# Altium integrated library Motorola Microcontroller 32-Bit.IntLib: 337 symbols (part 18 of 29)
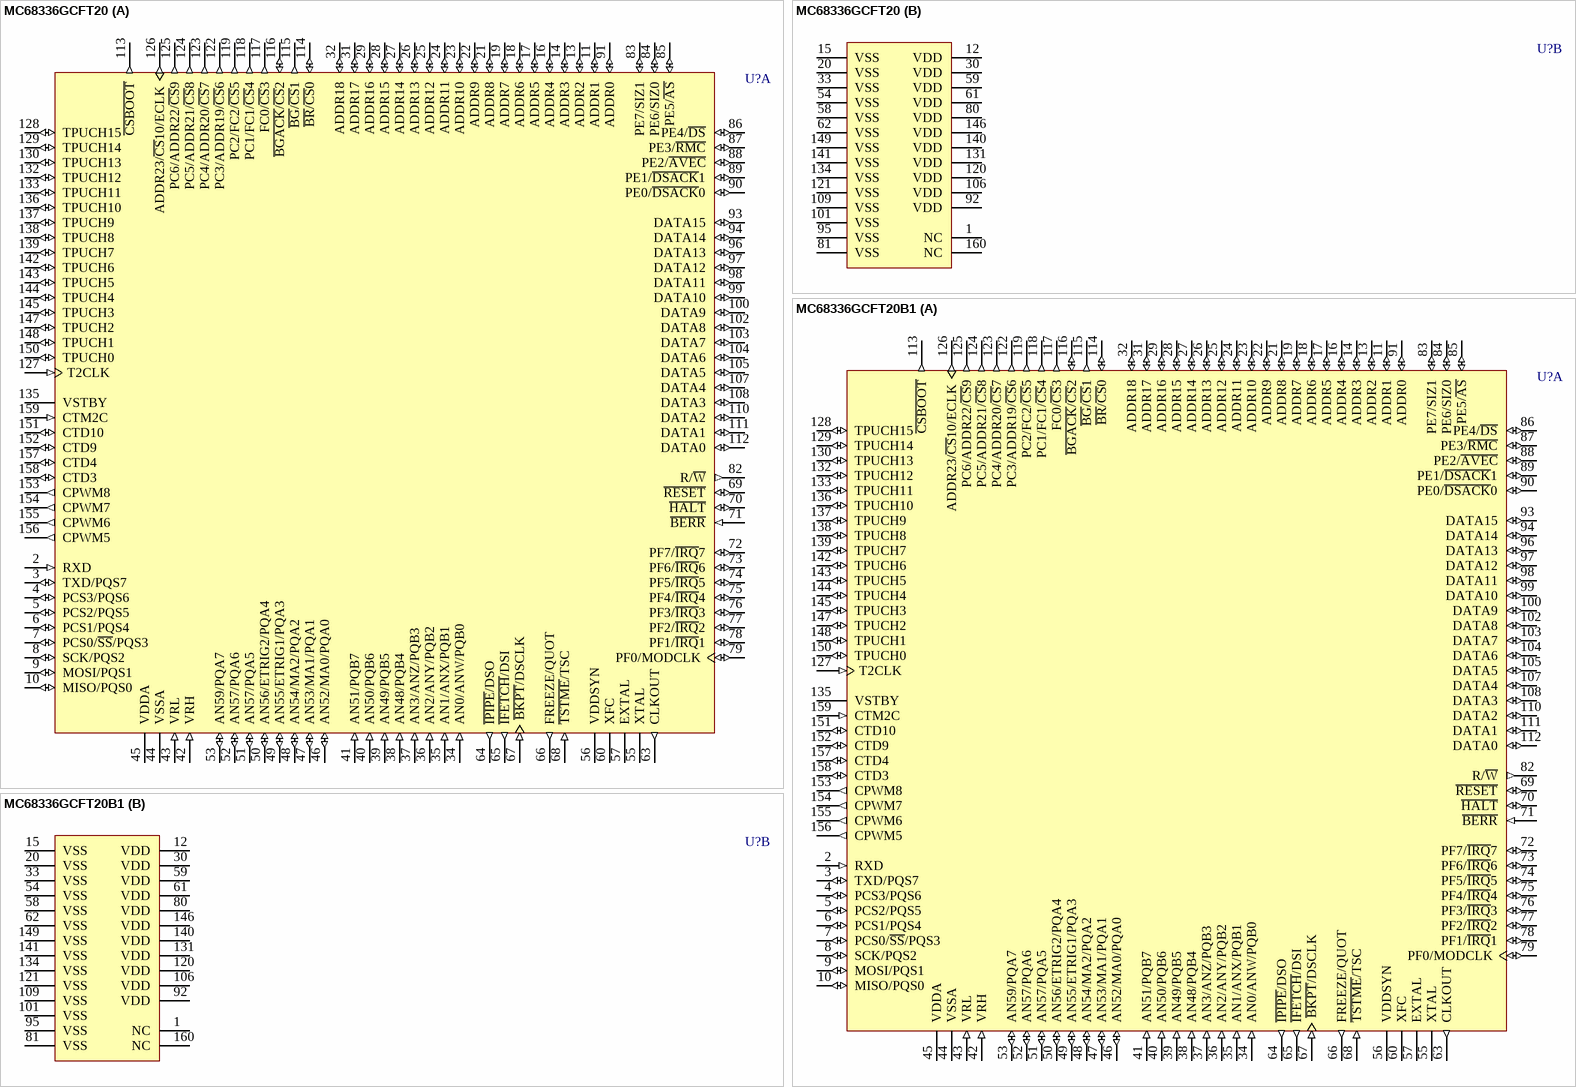
[diagram p257: symbols MC68336GCFT20 to MC68336GCFT20B1]

## MC68336GCFT20
designator U?
32-Bit Microcontroller; Published: 21-Mar-2003; LatestRevisionDate: 13-Apr-2006; LatestRevisionNote: IPC-7351 Footprint Added.; DatasheetVersion: 15-Oct-2000; PackageVersion: 1996; PackageReference: 864A-03; Publisher: Altium Limited; PackageDescription: 160-Pin Plastic Quad Flat Pack 0.65 mm Pitch; Code_IPC: QFP65P3120X3120-160; ComponentLink1Description: Manufacturer Link; ComponentLink1URL: http://www.freescale.com/; ComponentLink2Description: Datasheet; ComponentLink2URL: http://www.freescale.com/files/microcontrollers/doc/data_sheet/MC683336_376UM_ZIP.zip
footprint 864A-03_N (QFP, 160-Leads, Body 28 x 28mm, Pitch 0.65mm, IPC Medium Density)
footprint 864A-03_L (QFP, 160-Leads, Body 28 x 28mm, Pitch 0.65mm, IPC High Density)
footprint 864A-03_M (QFP, 160-Leads, Body 28 x 28mm, Pitch 0.65mm, IPC Low Density)
3D model MC68336-864A-03 (160-Pin Plastic Quad Flat Pack 0.65 mm Pitch)
part A pins: 2 RXD (in), 3 TXD/PQS7 (io), 4 PCS3/PQS6 (io), 5 PCS2/PQS5 (io), 6 PCS1/PQS4 (io), 7 PCS0/~{SS}/PQS3 (io), 8 SCK/PQS2 (io), 9 MOSI/PQS1 (io), 10 MISO/PQS0 (io), 11 ADDR1 (io), 13 ADDR2 (io), 14 ADDR3 (io), 16 ADDR4 (io), 17 ADDR5 (io), 18 ADDR6 (io), 19 ADDR7 (io), 21 ADDR8 (io), 22 ADDR9 (io), 23 ADDR10 (io), 24 ADDR11 (io), 25 ADDR12 (io), 26 ADDR13 (io), 27 ADDR14 (io), 28 ADDR15 (io), 29 ADDR16 (io), 31 ADDR17 (io), 32 ADDR18 (io), 34 AN0/ANW/PQB0 (in), 35 AN1/ANX/PQB1 (in), 36 AN2/ANY/PQB2 (in), 37 AN3/ANZ/PQB3 (in), 38 AN48/PQB4 (in), 39 AN49/PQB5 (in), 40 AN50/PQB6 (in), 41 AN51/PQB7 (in), 42 VRH (in), 43 VRL (in), 44 VSSA (power), 45 VDDA (power), 46 AN52/MA0/PQA0 (io), 47 AN53/MA1/PQA1 (io), 48 AN54/MA2/PQA2 (io), 49 AN55/ETRIG1/PQA3 (io), 50 AN56/ETRIG2/PQA4 (io), 51 AN57/PQA5 (io), 52 AN57/PQA6 (io), 53 AN59/PQA7 (io), 55 XTAL, 56 VDDSYN (power), 57 EXTAL, 60 XFC, 63 CLKOUT (out), 64 ~{IPIPE}/DSO (out), 65 ~{IFETCH}/DSI (out), 66 FREEZE/QUOT (out), 67 ~{BKPT}/DSCLK (in), 68 ~{TSTME}/TSC (in), 69 ~{RESET} (io), 70 ~{HALT} (io), 71 ~{BERR} (in), 72 PF7/~{IRQ}7 (io), 73 PF6/~{IRQ}6 (io), 74 PF5/~{IRQ}5 (io), 75 PF4/~{IRQ}4 (io), 76 PF3/~{IRQ}3 (io), 77 PF2/~{IRQ}2 (io), 78 PF1/~{IRQ}1 (io), 79 PF0/MODCLK (io), 82 R/~{W} (out), 83 PE7/SIZ1 (io), 84 PE6/SIZ0 (io), 85 PE5/~{AS} (io), 86 PE4/~{DS} (io), 87 PE3/~{RMC} (io), 88 PE2/~{AVEC} (io), 89 PE1/~{DSACK}1 (io), 90 PE0/~{DSACK}0 (io), 91 ADDR0 (io), 93 DATA15 (io), 94 DATA14 (io), 96 DATA13 (io), 97 DATA12 (io), 98 DATA11 (io), 99 DATA10 (io), 100 DATA9 (io), 102 DATA8 (io), 103 DATA7 (io), 104 DATA6 (io), 105 DATA5 (io), 107 DATA4 (io), 108 DATA3 (io), 110 DATA2 (io), 111 DATA1 (io), 112 DATA0 (io), 113 ~{CSBOOT} (out), 114 ~{BR}/~{CS}0 (io), 115 ~{BG}/~{CS}1 (out), 116 ~{BGACK}/~{CS}2 (io), 117 FC0/~{CS}3 (out), 118 PC1/FC1/~{CS}4 (out), 119 PC2/FC2/~{CS}5 (out), 122 PC3/ADDR19/~{CS}6 (out), 123 PC4/ADDR20/~{CS}7 (out), 124 PC5/ADDR21/~{CS}8 (out), 125 PC6/ADDR22/~{CS}9 (out), 126 ADDR23/~{CS}10/ECLK (out), 127 T2CLK (in), 128 TPUCH15 (io), 129 TPUCH14 (io), 130 TPUCH13 (io), 132 TPUCH12 (io), 133 TPUCH11 (io), 135 VSTBY (power), 136 TPUCH10 (io), 137 TPUCH9 (io), 138 TPUCH8 (io), 139 TPUCH7 (io), 142 TPUCH6 (io), 143 TPUCH5 (io), 144 TPUCH4 (io), 145 TPUCH3 (io), 147 TPUCH2 (io), 148 TPUCH1 (io), 150 TPUCH0 (io), 151 CTD10 (io), 152 CTD9 (io), 153 CPWM8 (out), 154 CPWM7 (out), 155 CPWM6 (out), 156 CPWM5 (out), 157 CTD4 (io), 158 CTD3 (io), 159 CTM2C (in)
part B pins: 1 NC, 12 VDD (power), 15 VSS (power), 20 VSS (power), 30 VDD (power), 33 VSS (power), 54 VSS (power), 58 VSS (power), 59 VDD (power), 61 VDD (power), 62 VSS (power), 80 VDD (power), 81 VSS (power), 92 VDD (power), 95 VSS (power), 101 VSS (power), 106 VDD (power), 109 VSS (power), 120 VDD (power), 121 VSS (power), 131 VDD (power), 134 VSS (power), 140 VDD (power), 141 VSS (power), 146 VDD (power), 149 VSS (power), 160 NC

## MC68336GCFT20B1
designator U?
32-Bit Microcontroller; Published: 21-Mar-2003; LatestRevisionDate: 13-Apr-2006; LatestRevisionNote: IPC-7351 Footprint Added.; DatasheetVersion: 15-Oct-2000; PackageVersion: 1996; PackageReference: 864A-03; Publisher: Altium Limited; PackageDescription: 160-Pin Plastic Quad Flat Pack 0.65 mm Pitch; Code_IPC: QFP65P3120X3120-160; ComponentLink1Description: Manufacturer Link; ComponentLink1URL: http://www.freescale.com/; ComponentLink2Description: Datasheet; ComponentLink2URL: http://www.freescale.com/files/microcontrollers/doc/data_sheet/MC683336_376UM_ZIP.zip
footprint 864A-03_N (QFP, 160-Leads, Body 28 x 28mm, Pitch 0.65mm, IPC Medium Density)
footprint 864A-03_L (QFP, 160-Leads, Body 28 x 28mm, Pitch 0.65mm, IPC High Density)
footprint 864A-03_M (QFP, 160-Leads, Body 28 x 28mm, Pitch 0.65mm, IPC Low Density)
3D model MC68336-864A-03 (160-Pin Plastic Quad Flat Pack 0.65 mm Pitch)
part A pins: 2 RXD (in), 3 TXD/PQS7 (io), 4 PCS3/PQS6 (io), 5 PCS2/PQS5 (io), 6 PCS1/PQS4 (io), 7 PCS0/~{SS}/PQS3 (io), 8 SCK/PQS2 (io), 9 MOSI/PQS1 (io), 10 MISO/PQS0 (io), 11 ADDR1 (io), 13 ADDR2 (io), 14 ADDR3 (io), 16 ADDR4 (io), 17 ADDR5 (io), 18 ADDR6 (io), 19 ADDR7 (io), 21 ADDR8 (io), 22 ADDR9 (io), 23 ADDR10 (io), 24 ADDR11 (io), 25 ADDR12 (io), 26 ADDR13 (io), 27 ADDR14 (io), 28 ADDR15 (io), 29 ADDR16 (io), 31 ADDR17 (io), 32 ADDR18 (io), 34 AN0/ANW/PQB0 (in), 35 AN1/ANX/PQB1 (in), 36 AN2/ANY/PQB2 (in), 37 AN3/ANZ/PQB3 (in), 38 AN48/PQB4 (in), 39 AN49/PQB5 (in), 40 AN50/PQB6 (in), 41 AN51/PQB7 (in), 42 VRH (in), 43 VRL (in), 44 VSSA (power), 45 VDDA (power), 46 AN52/MA0/PQA0 (io), 47 AN53/MA1/PQA1 (io), 48 AN54/MA2/PQA2 (io), 49 AN55/ETRIG1/PQA3 (io), 50 AN56/ETRIG2/PQA4 (io), 51 AN57/PQA5 (io), 52 AN57/PQA6 (io), 53 AN59/PQA7 (io), 55 XTAL, 56 VDDSYN (power), 57 EXTAL, 60 XFC, 63 CLKOUT (out), 64 ~{IPIPE}/DSO (out), 65 ~{IFETCH}/DSI (out), 66 FREEZE/QUOT (out), 67 ~{BKPT}/DSCLK (in), 68 ~{TSTME}/TSC (in), 69 ~{RESET} (io), 70 ~{HALT} (io), 71 ~{BERR} (in), 72 PF7/~{IRQ}7 (io), 73 PF6/~{IRQ}6 (io), 74 PF5/~{IRQ}5 (io), 75 PF4/~{IRQ}4 (io), 76 PF3/~{IRQ}3 (io), 77 PF2/~{IRQ}2 (io), 78 PF1/~{IRQ}1 (io), 79 PF0/MODCLK (io), 82 R/~{W} (out), 83 PE7/SIZ1 (io), 84 PE6/SIZ0 (io), 85 PE5/~{AS} (io), 86 PE4/~{DS} (io), 87 PE3/~{RMC} (io), 88 PE2/~{AVEC} (io), 89 PE1/~{DSACK}1 (io), 90 PE0/~{DSACK}0 (io), 91 ADDR0 (io), 93 DATA15 (io), 94 DATA14 (io), 96 DATA13 (io), 97 DATA12 (io), 98 DATA11 (io), 99 DATA10 (io), 100 DATA9 (io), 102 DATA8 (io), 103 DATA7 (io), 104 DATA6 (io), 105 DATA5 (io), 107 DATA4 (io), 108 DATA3 (io), 110 DATA2 (io), 111 DATA1 (io), 112 DATA0 (io), 113 ~{CSBOOT} (out), 114 ~{BR}/~{CS}0 (io), 115 ~{BG}/~{CS}1 (out), 116 ~{BGACK}/~{CS}2 (io), 117 FC0/~{CS}3 (out), 118 PC1/FC1/~{CS}4 (out), 119 PC2/FC2/~{CS}5 (out), 122 PC3/ADDR19/~{CS}6 (out), 123 PC4/ADDR20/~{CS}7 (out), 124 PC5/ADDR21/~{CS}8 (out), 125 PC6/ADDR22/~{CS}9 (out), 126 ADDR23/~{CS}10/ECLK (out), 127 T2CLK (in), 128 TPUCH15 (io), 129 TPUCH14 (io), 130 TPUCH13 (io), 132 TPUCH12 (io), 133 TPUCH11 (io), 135 VSTBY (power), 136 TPUCH10 (io), 137 TPUCH9 (io), 138 TPUCH8 (io), 139 TPUCH7 (io), 142 TPUCH6 (io), 143 TPUCH5 (io), 144 TPUCH4 (io), 145 TPUCH3 (io), 147 TPUCH2 (io), 148 TPUCH1 (io), 150 TPUCH0 (io), 151 CTD10 (io), 152 CTD9 (io), 153 CPWM8 (out), 154 CPWM7 (out), 155 CPWM6 (out), 156 CPWM5 (out), 157 CTD4 (io), 158 CTD3 (io), 159 CTM2C (in)
part B pins: 1 NC, 12 VDD (power), 15 VSS (power), 20 VSS (power), 30 VDD (power), 33 VSS (power), 54 VSS (power), 58 VSS (power), 59 VDD (power), 61 VDD (power), 62 VSS (power), 80 VDD (power), 81 VSS (power), 92 VDD (power), 95 VSS (power), 101 VSS (power), 106 VDD (power), 109 VSS (power), 120 VDD (power), 121 VSS (power), 131 VDD (power), 134 VSS (power), 140 VDD (power), 141 VSS (power), 146 VDD (power), 149 VSS (power), 160 NC

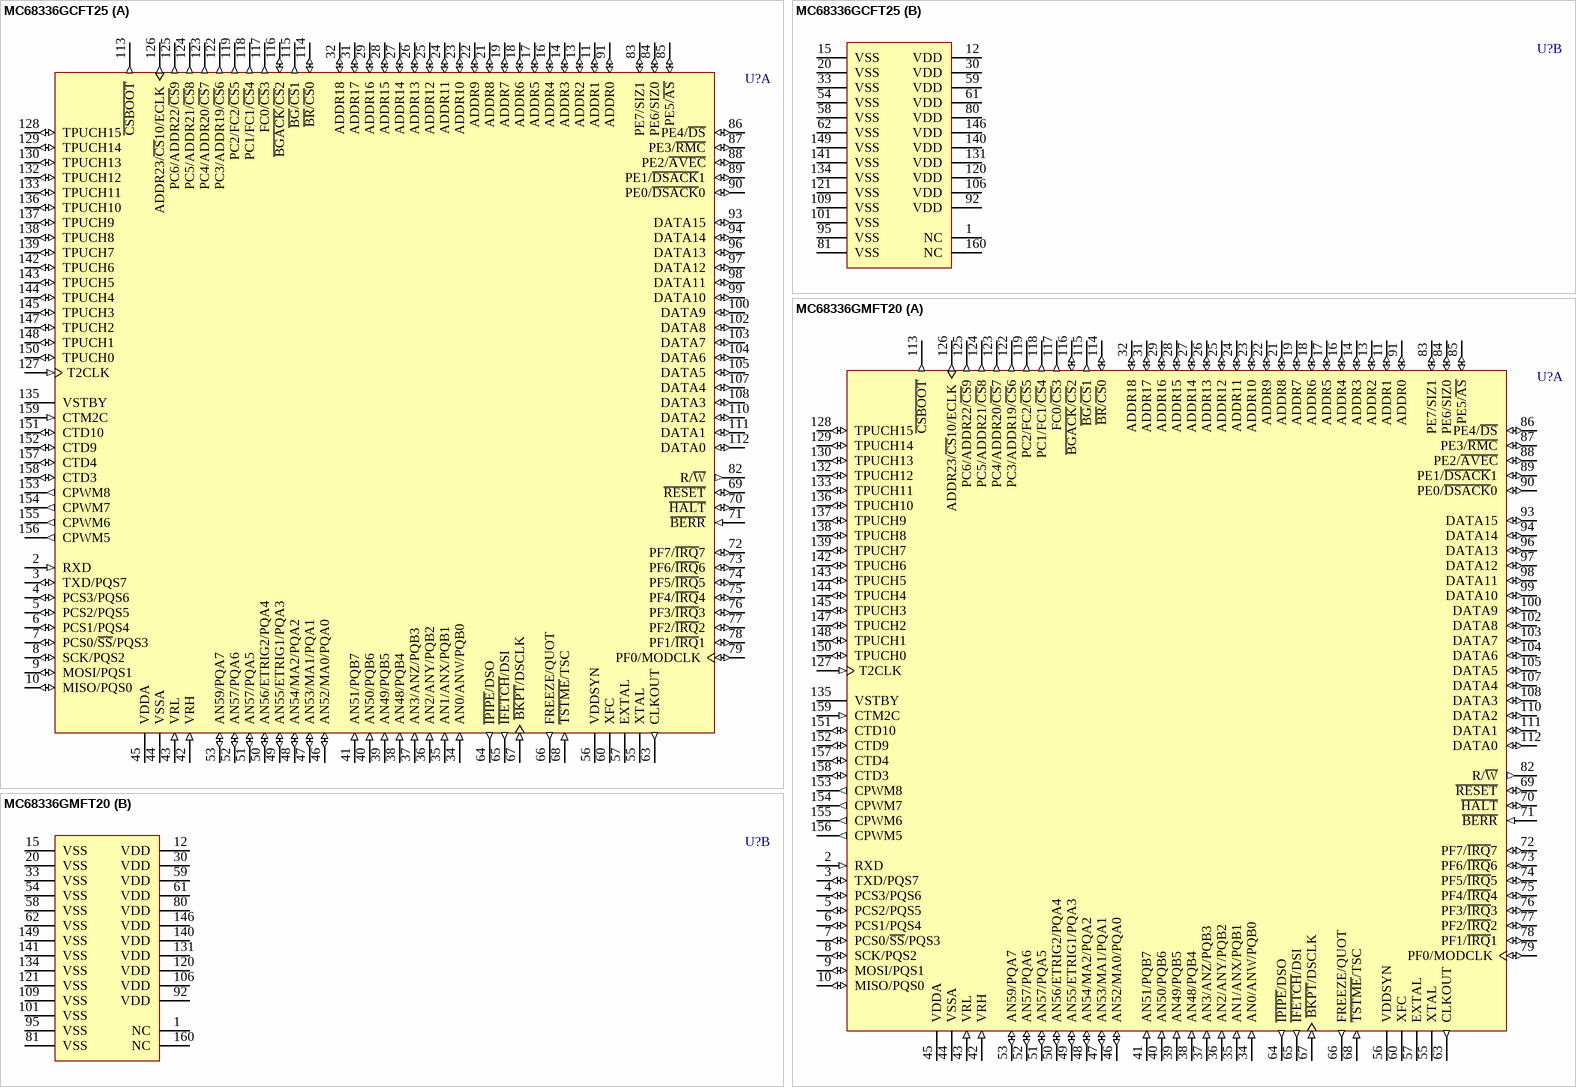
[diagram p145: symbols MC68336GCFT25 to MC68336GMFT20]

## MC68336GCFT25
designator U?
32-Bit Microcontroller; Published: 21-Mar-2003; LatestRevisionDate: 13-Apr-2006; LatestRevisionNote: IPC-7351 Footprint Added.; DatasheetVersion: 15-Oct-2000; PackageVersion: 1996; PackageReference: 864A-03; Publisher: Altium Limited; PackageDescription: 160-Pin Plastic Quad Flat Pack 0.65 mm Pitch; Code_IPC: QFP65P3120X3120-160; ComponentLink1Description: Manufacturer Link; ComponentLink1URL: http://www.freescale.com/; ComponentLink2Description: Datasheet; ComponentLink2URL: http://www.freescale.com/files/microcontrollers/doc/data_sheet/MC683336_376UM_ZIP.zip
footprint 864A-03_N (QFP, 160-Leads, Body 28 x 28mm, Pitch 0.65mm, IPC Medium Density)
footprint 864A-03_L (QFP, 160-Leads, Body 28 x 28mm, Pitch 0.65mm, IPC High Density)
footprint 864A-03_M (QFP, 160-Leads, Body 28 x 28mm, Pitch 0.65mm, IPC Low Density)
3D model MC68336-864A-03 (160-Pin Plastic Quad Flat Pack 0.65 mm Pitch)
part A pins: 2 RXD (in), 3 TXD/PQS7 (io), 4 PCS3/PQS6 (io), 5 PCS2/PQS5 (io), 6 PCS1/PQS4 (io), 7 PCS0/~{SS}/PQS3 (io), 8 SCK/PQS2 (io), 9 MOSI/PQS1 (io), 10 MISO/PQS0 (io), 11 ADDR1 (io), 13 ADDR2 (io), 14 ADDR3 (io), 16 ADDR4 (io), 17 ADDR5 (io), 18 ADDR6 (io), 19 ADDR7 (io), 21 ADDR8 (io), 22 ADDR9 (io), 23 ADDR10 (io), 24 ADDR11 (io), 25 ADDR12 (io), 26 ADDR13 (io), 27 ADDR14 (io), 28 ADDR15 (io), 29 ADDR16 (io), 31 ADDR17 (io), 32 ADDR18 (io), 34 AN0/ANW/PQB0 (in), 35 AN1/ANX/PQB1 (in), 36 AN2/ANY/PQB2 (in), 37 AN3/ANZ/PQB3 (in), 38 AN48/PQB4 (in), 39 AN49/PQB5 (in), 40 AN50/PQB6 (in), 41 AN51/PQB7 (in), 42 VRH (in), 43 VRL (in), 44 VSSA (power), 45 VDDA (power), 46 AN52/MA0/PQA0 (io), 47 AN53/MA1/PQA1 (io), 48 AN54/MA2/PQA2 (io), 49 AN55/ETRIG1/PQA3 (io), 50 AN56/ETRIG2/PQA4 (io), 51 AN57/PQA5 (io), 52 AN57/PQA6 (io), 53 AN59/PQA7 (io), 55 XTAL, 56 VDDSYN (power), 57 EXTAL, 60 XFC, 63 CLKOUT (out), 64 ~{IPIPE}/DSO (out), 65 ~{IFETCH}/DSI (out), 66 FREEZE/QUOT (out), 67 ~{BKPT}/DSCLK (in), 68 ~{TSTME}/TSC (in), 69 ~{RESET} (io), 70 ~{HALT} (io), 71 ~{BERR} (in), 72 PF7/~{IRQ}7 (io), 73 PF6/~{IRQ}6 (io), 74 PF5/~{IRQ}5 (io), 75 PF4/~{IRQ}4 (io), 76 PF3/~{IRQ}3 (io), 77 PF2/~{IRQ}2 (io), 78 PF1/~{IRQ}1 (io), 79 PF0/MODCLK (io), 82 R/~{W} (out), 83 PE7/SIZ1 (io), 84 PE6/SIZ0 (io), 85 PE5/~{AS} (io), 86 PE4/~{DS} (io), 87 PE3/~{RMC} (io), 88 PE2/~{AVEC} (io), 89 PE1/~{DSACK}1 (io), 90 PE0/~{DSACK}0 (io), 91 ADDR0 (io), 93 DATA15 (io), 94 DATA14 (io), 96 DATA13 (io), 97 DATA12 (io), 98 DATA11 (io), 99 DATA10 (io), 100 DATA9 (io), 102 DATA8 (io), 103 DATA7 (io), 104 DATA6 (io), 105 DATA5 (io), 107 DATA4 (io), 108 DATA3 (io), 110 DATA2 (io), 111 DATA1 (io), 112 DATA0 (io), 113 ~{CSBOOT} (out), 114 ~{BR}/~{CS}0 (io), 115 ~{BG}/~{CS}1 (out), 116 ~{BGACK}/~{CS}2 (io), 117 FC0/~{CS}3 (out), 118 PC1/FC1/~{CS}4 (out), 119 PC2/FC2/~{CS}5 (out), 122 PC3/ADDR19/~{CS}6 (out), 123 PC4/ADDR20/~{CS}7 (out), 124 PC5/ADDR21/~{CS}8 (out), 125 PC6/ADDR22/~{CS}9 (out), 126 ADDR23/~{CS}10/ECLK (out), 127 T2CLK (in), 128 TPUCH15 (io), 129 TPUCH14 (io), 130 TPUCH13 (io), 132 TPUCH12 (io), 133 TPUCH11 (io), 135 VSTBY (power), 136 TPUCH10 (io), 137 TPUCH9 (io), 138 TPUCH8 (io), 139 TPUCH7 (io), 142 TPUCH6 (io), 143 TPUCH5 (io), 144 TPUCH4 (io), 145 TPUCH3 (io), 147 TPUCH2 (io), 148 TPUCH1 (io), 150 TPUCH0 (io), 151 CTD10 (io), 152 CTD9 (io), 153 CPWM8 (out), 154 CPWM7 (out), 155 CPWM6 (out), 156 CPWM5 (out), 157 CTD4 (io), 158 CTD3 (io), 159 CTM2C (in)
part B pins: 1 NC, 12 VDD (power), 15 VSS (power), 20 VSS (power), 30 VDD (power), 33 VSS (power), 54 VSS (power), 58 VSS (power), 59 VDD (power), 61 VDD (power), 62 VSS (power), 80 VDD (power), 81 VSS (power), 92 VDD (power), 95 VSS (power), 101 VSS (power), 106 VDD (power), 109 VSS (power), 120 VDD (power), 121 VSS (power), 131 VDD (power), 134 VSS (power), 140 VDD (power), 141 VSS (power), 146 VDD (power), 149 VSS (power), 160 NC

## MC68336GMFT20
designator U?
32-Bit Microcontroller; Published: 21-Mar-2003; LatestRevisionDate: 13-Apr-2006; LatestRevisionNote: IPC-7351 Footprint Added.; DatasheetVersion: 15-Oct-2000; PackageVersion: 1996; PackageReference: 864A-03; Publisher: Altium Limited; PackageDescription: 160-Pin Plastic Quad Flat Pack 0.65 mm Pitch; Code_IPC: QFP65P3120X3120-160; ComponentLink1Description: Manufacturer Link; ComponentLink1URL: http://www.freescale.com/; ComponentLink2Description: Datasheet; ComponentLink2URL: http://www.freescale.com/files/microcontrollers/doc/data_sheet/MC683336_376UM_ZIP.zip
footprint 864A-03_N (QFP, 160-Leads, Body 28 x 28mm, Pitch 0.65mm, IPC Medium Density)
footprint 864A-03_L (QFP, 160-Leads, Body 28 x 28mm, Pitch 0.65mm, IPC High Density)
footprint 864A-03_M (QFP, 160-Leads, Body 28 x 28mm, Pitch 0.65mm, IPC Low Density)
3D model MC68336-864A-03 (160-Pin Plastic Quad Flat Pack 0.65 mm Pitch)
part A pins: 2 RXD (in), 3 TXD/PQS7 (io), 4 PCS3/PQS6 (io), 5 PCS2/PQS5 (io), 6 PCS1/PQS4 (io), 7 PCS0/~{SS}/PQS3 (io), 8 SCK/PQS2 (io), 9 MOSI/PQS1 (io), 10 MISO/PQS0 (io), 11 ADDR1 (io), 13 ADDR2 (io), 14 ADDR3 (io), 16 ADDR4 (io), 17 ADDR5 (io), 18 ADDR6 (io), 19 ADDR7 (io), 21 ADDR8 (io), 22 ADDR9 (io), 23 ADDR10 (io), 24 ADDR11 (io), 25 ADDR12 (io), 26 ADDR13 (io), 27 ADDR14 (io), 28 ADDR15 (io), 29 ADDR16 (io), 31 ADDR17 (io), 32 ADDR18 (io), 34 AN0/ANW/PQB0 (in), 35 AN1/ANX/PQB1 (in), 36 AN2/ANY/PQB2 (in), 37 AN3/ANZ/PQB3 (in), 38 AN48/PQB4 (in), 39 AN49/PQB5 (in), 40 AN50/PQB6 (in), 41 AN51/PQB7 (in), 42 VRH (in), 43 VRL (in), 44 VSSA (power), 45 VDDA (power), 46 AN52/MA0/PQA0 (io), 47 AN53/MA1/PQA1 (io), 48 AN54/MA2/PQA2 (io), 49 AN55/ETRIG1/PQA3 (io), 50 AN56/ETRIG2/PQA4 (io), 51 AN57/PQA5 (io), 52 AN57/PQA6 (io), 53 AN59/PQA7 (io), 55 XTAL, 56 VDDSYN (power), 57 EXTAL, 60 XFC, 63 CLKOUT (out), 64 ~{IPIPE}/DSO (out), 65 ~{IFETCH}/DSI (out), 66 FREEZE/QUOT (out), 67 ~{BKPT}/DSCLK (in), 68 ~{TSTME}/TSC (in), 69 ~{RESET} (io), 70 ~{HALT} (io), 71 ~{BERR} (in), 72 PF7/~{IRQ}7 (io), 73 PF6/~{IRQ}6 (io), 74 PF5/~{IRQ}5 (io), 75 PF4/~{IRQ}4 (io), 76 PF3/~{IRQ}3 (io), 77 PF2/~{IRQ}2 (io), 78 PF1/~{IRQ}1 (io), 79 PF0/MODCLK (io), 82 R/~{W} (out), 83 PE7/SIZ1 (io), 84 PE6/SIZ0 (io), 85 PE5/~{AS} (io), 86 PE4/~{DS} (io), 87 PE3/~{RMC} (io), 88 PE2/~{AVEC} (io), 89 PE1/~{DSACK}1 (io), 90 PE0/~{DSACK}0 (io), 91 ADDR0 (io), 93 DATA15 (io), 94 DATA14 (io), 96 DATA13 (io), 97 DATA12 (io), 98 DATA11 (io), 99 DATA10 (io), 100 DATA9 (io), 102 DATA8 (io), 103 DATA7 (io), 104 DATA6 (io), 105 DATA5 (io), 107 DATA4 (io), 108 DATA3 (io), 110 DATA2 (io), 111 DATA1 (io), 112 DATA0 (io), 113 ~{CSBOOT} (out), 114 ~{BR}/~{CS}0 (io), 115 ~{BG}/~{CS}1 (out), 116 ~{BGACK}/~{CS}2 (io), 117 FC0/~{CS}3 (out), 118 PC1/FC1/~{CS}4 (out), 119 PC2/FC2/~{CS}5 (out), 122 PC3/ADDR19/~{CS}6 (out), 123 PC4/ADDR20/~{CS}7 (out), 124 PC5/ADDR21/~{CS}8 (out), 125 PC6/ADDR22/~{CS}9 (out), 126 ADDR23/~{CS}10/ECLK (out), 127 T2CLK (in), 128 TPUCH15 (io), 129 TPUCH14 (io), 130 TPUCH13 (io), 132 TPUCH12 (io), 133 TPUCH11 (io), 135 VSTBY (power), 136 TPUCH10 (io), 137 TPUCH9 (io), 138 TPUCH8 (io), 139 TPUCH7 (io), 142 TPUCH6 (io), 143 TPUCH5 (io), 144 TPUCH4 (io), 145 TPUCH3 (io), 147 TPUCH2 (io), 148 TPUCH1 (io), 150 TPUCH0 (io), 151 CTD10 (io), 152 CTD9 (io), 153 CPWM8 (out), 154 CPWM7 (out), 155 CPWM6 (out), 156 CPWM5 (out), 157 CTD4 (io), 158 CTD3 (io), 159 CTM2C (in)
part B pins: 1 NC, 12 VDD (power), 15 VSS (power), 20 VSS (power), 30 VDD (power), 33 VSS (power), 54 VSS (power), 58 VSS (power), 59 VDD (power), 61 VDD (power), 62 VSS (power), 80 VDD (power), 81 VSS (power), 92 VDD (power), 95 VSS (power), 101 VSS (power), 106 VDD (power), 109 VSS (power), 120 VDD (power), 121 VSS (power), 131 VDD (power), 134 VSS (power), 140 VDD (power), 141 VSS (power), 146 VDD (power), 149 VSS (power), 160 NC

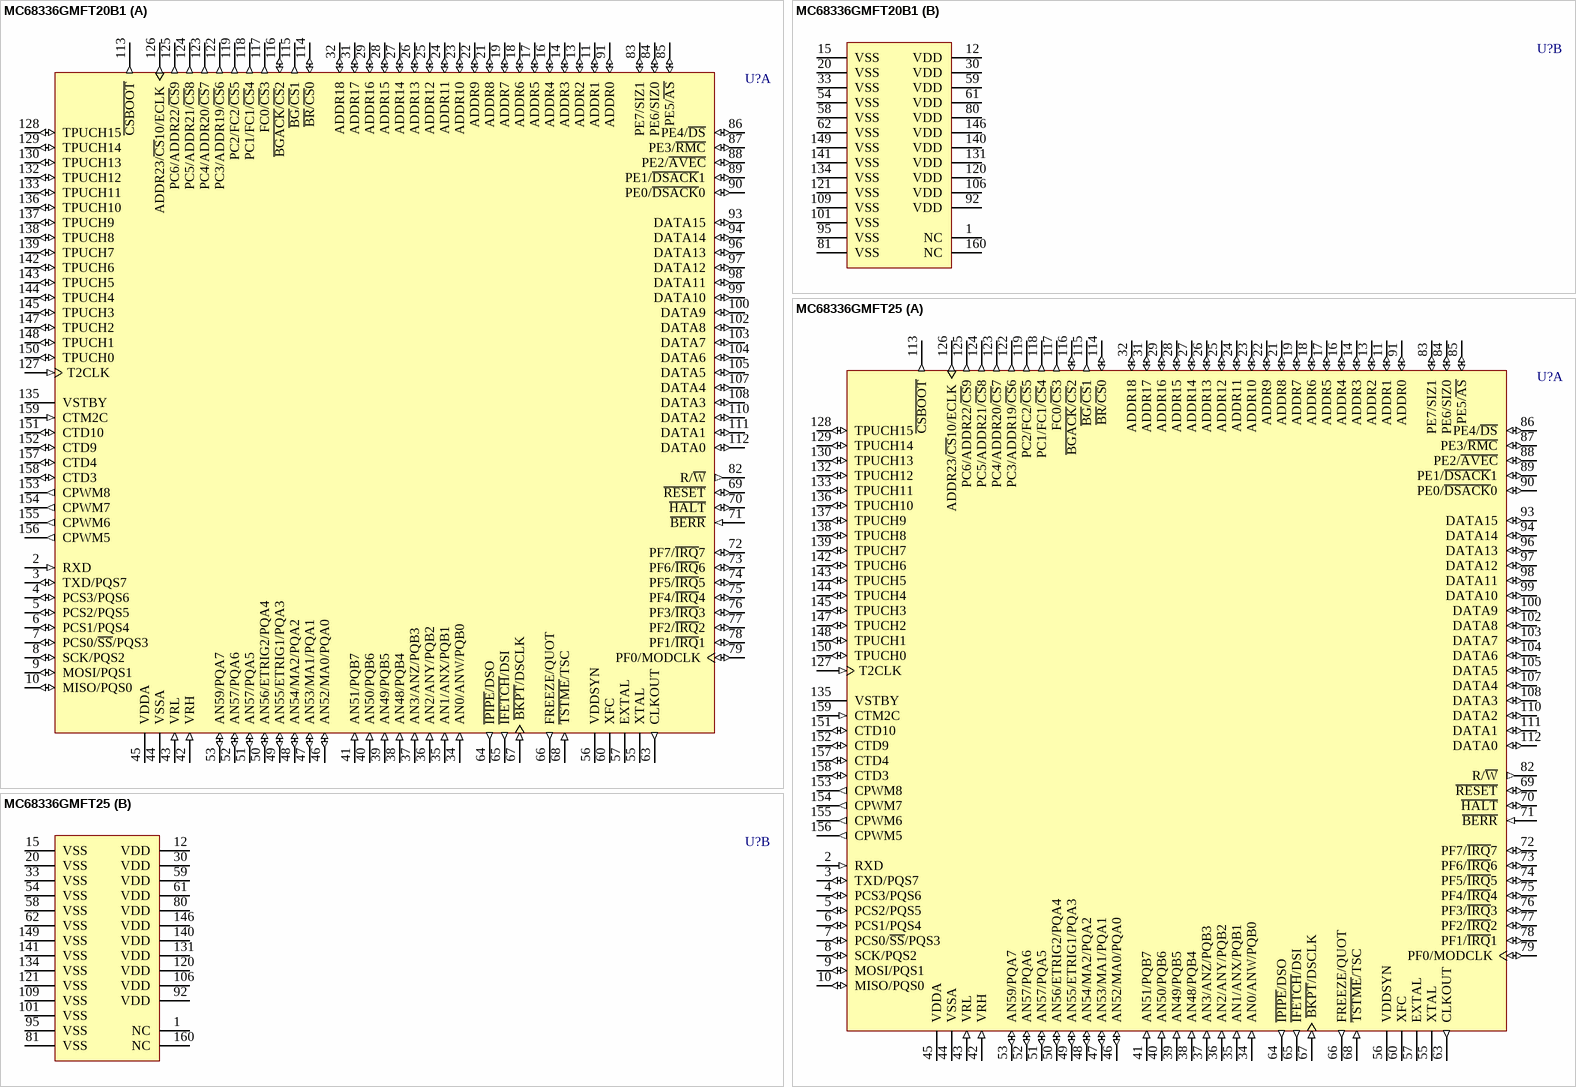
[diagram p146: symbols MC68336GMFT20B1 to MC68336GMFT25]

## MC68336GMFT20B1
designator U?
32-Bit Microcontroller; Published: 21-Mar-2003; LatestRevisionDate: 13-Apr-2006; LatestRevisionNote: IPC-7351 Footprint Added.; DatasheetVersion: 15-Oct-2000; PackageVersion: 1996; PackageReference: 864A-03; Publisher: Altium Limited; PackageDescription: 160-Pin Plastic Quad Flat Pack 0.65 mm Pitch; Code_IPC: QFP65P3120X3120-160; ComponentLink1Description: Manufacturer Link; ComponentLink1URL: http://www.freescale.com/; ComponentLink2Description: Datasheet; ComponentLink2URL: http://www.freescale.com/files/microcontrollers/doc/data_sheet/MC683336_376UM_ZIP.zip
footprint 864A-03_N (QFP, 160-Leads, Body 28 x 28mm, Pitch 0.65mm, IPC Medium Density)
footprint 864A-03_L (QFP, 160-Leads, Body 28 x 28mm, Pitch 0.65mm, IPC High Density)
footprint 864A-03_M (QFP, 160-Leads, Body 28 x 28mm, Pitch 0.65mm, IPC Low Density)
3D model MC68336-864A-03 (160-Pin Plastic Quad Flat Pack 0.65 mm Pitch)
part A pins: 2 RXD (in), 3 TXD/PQS7 (io), 4 PCS3/PQS6 (io), 5 PCS2/PQS5 (io), 6 PCS1/PQS4 (io), 7 PCS0/~{SS}/PQS3 (io), 8 SCK/PQS2 (io), 9 MOSI/PQS1 (io), 10 MISO/PQS0 (io), 11 ADDR1 (io), 13 ADDR2 (io), 14 ADDR3 (io), 16 ADDR4 (io), 17 ADDR5 (io), 18 ADDR6 (io), 19 ADDR7 (io), 21 ADDR8 (io), 22 ADDR9 (io), 23 ADDR10 (io), 24 ADDR11 (io), 25 ADDR12 (io), 26 ADDR13 (io), 27 ADDR14 (io), 28 ADDR15 (io), 29 ADDR16 (io), 31 ADDR17 (io), 32 ADDR18 (io), 34 AN0/ANW/PQB0 (in), 35 AN1/ANX/PQB1 (in), 36 AN2/ANY/PQB2 (in), 37 AN3/ANZ/PQB3 (in), 38 AN48/PQB4 (in), 39 AN49/PQB5 (in), 40 AN50/PQB6 (in), 41 AN51/PQB7 (in), 42 VRH (in), 43 VRL (in), 44 VSSA (power), 45 VDDA (power), 46 AN52/MA0/PQA0 (io), 47 AN53/MA1/PQA1 (io), 48 AN54/MA2/PQA2 (io), 49 AN55/ETRIG1/PQA3 (io), 50 AN56/ETRIG2/PQA4 (io), 51 AN57/PQA5 (io), 52 AN57/PQA6 (io), 53 AN59/PQA7 (io), 55 XTAL, 56 VDDSYN (power), 57 EXTAL, 60 XFC, 63 CLKOUT (out), 64 ~{IPIPE}/DSO (out), 65 ~{IFETCH}/DSI (out), 66 FREEZE/QUOT (out), 67 ~{BKPT}/DSCLK (in), 68 ~{TSTME}/TSC (in), 69 ~{RESET} (io), 70 ~{HALT} (io), 71 ~{BERR} (in), 72 PF7/~{IRQ}7 (io), 73 PF6/~{IRQ}6 (io), 74 PF5/~{IRQ}5 (io), 75 PF4/~{IRQ}4 (io), 76 PF3/~{IRQ}3 (io), 77 PF2/~{IRQ}2 (io), 78 PF1/~{IRQ}1 (io), 79 PF0/MODCLK (io), 82 R/~{W} (out), 83 PE7/SIZ1 (io), 84 PE6/SIZ0 (io), 85 PE5/~{AS} (io), 86 PE4/~{DS} (io), 87 PE3/~{RMC} (io), 88 PE2/~{AVEC} (io), 89 PE1/~{DSACK}1 (io), 90 PE0/~{DSACK}0 (io), 91 ADDR0 (io), 93 DATA15 (io), 94 DATA14 (io), 96 DATA13 (io), 97 DATA12 (io), 98 DATA11 (io), 99 DATA10 (io), 100 DATA9 (io), 102 DATA8 (io), 103 DATA7 (io), 104 DATA6 (io), 105 DATA5 (io), 107 DATA4 (io), 108 DATA3 (io), 110 DATA2 (io), 111 DATA1 (io), 112 DATA0 (io), 113 ~{CSBOOT} (out), 114 ~{BR}/~{CS}0 (io), 115 ~{BG}/~{CS}1 (out), 116 ~{BGACK}/~{CS}2 (io), 117 FC0/~{CS}3 (out), 118 PC1/FC1/~{CS}4 (out), 119 PC2/FC2/~{CS}5 (out), 122 PC3/ADDR19/~{CS}6 (out), 123 PC4/ADDR20/~{CS}7 (out), 124 PC5/ADDR21/~{CS}8 (out), 125 PC6/ADDR22/~{CS}9 (out), 126 ADDR23/~{CS}10/ECLK (out), 127 T2CLK (in), 128 TPUCH15 (io), 129 TPUCH14 (io), 130 TPUCH13 (io), 132 TPUCH12 (io), 133 TPUCH11 (io), 135 VSTBY (power), 136 TPUCH10 (io), 137 TPUCH9 (io), 138 TPUCH8 (io), 139 TPUCH7 (io), 142 TPUCH6 (io), 143 TPUCH5 (io), 144 TPUCH4 (io), 145 TPUCH3 (io), 147 TPUCH2 (io), 148 TPUCH1 (io), 150 TPUCH0 (io), 151 CTD10 (io), 152 CTD9 (io), 153 CPWM8 (out), 154 CPWM7 (out), 155 CPWM6 (out), 156 CPWM5 (out), 157 CTD4 (io), 158 CTD3 (io), 159 CTM2C (in)
part B pins: 1 NC, 12 VDD (power), 15 VSS (power), 20 VSS (power), 30 VDD (power), 33 VSS (power), 54 VSS (power), 58 VSS (power), 59 VDD (power), 61 VDD (power), 62 VSS (power), 80 VDD (power), 81 VSS (power), 92 VDD (power), 95 VSS (power), 101 VSS (power), 106 VDD (power), 109 VSS (power), 120 VDD (power), 121 VSS (power), 131 VDD (power), 134 VSS (power), 140 VDD (power), 141 VSS (power), 146 VDD (power), 149 VSS (power), 160 NC

## MC68336GMFT25
designator U?
32-Bit Microcontroller; Published: 21-Mar-2003; LatestRevisionDate: 13-Apr-2006; LatestRevisionNote: IPC-7351 Footprint Added.; DatasheetVersion: 15-Oct-2000; PackageVersion: 1996; PackageReference: 864A-03; Publisher: Altium Limited; PackageDescription: 160-Pin Plastic Quad Flat Pack 0.65 mm Pitch; Code_IPC: QFP65P3120X3120-160; ComponentLink1Description: Manufacturer Link; ComponentLink1URL: http://www.freescale.com/; ComponentLink2Description: Datasheet; ComponentLink2URL: http://www.freescale.com/files/microcontrollers/doc/data_sheet/MC683336_376UM_ZIP.zip
footprint 864A-03_N (QFP, 160-Leads, Body 28 x 28mm, Pitch 0.65mm, IPC Medium Density)
footprint 864A-03_L (QFP, 160-Leads, Body 28 x 28mm, Pitch 0.65mm, IPC High Density)
footprint 864A-03_M (QFP, 160-Leads, Body 28 x 28mm, Pitch 0.65mm, IPC Low Density)
3D model MC68336-864A-03 (160-Pin Plastic Quad Flat Pack 0.65 mm Pitch)
part A pins: 2 RXD (in), 3 TXD/PQS7 (io), 4 PCS3/PQS6 (io), 5 PCS2/PQS5 (io), 6 PCS1/PQS4 (io), 7 PCS0/~{SS}/PQS3 (io), 8 SCK/PQS2 (io), 9 MOSI/PQS1 (io), 10 MISO/PQS0 (io), 11 ADDR1 (io), 13 ADDR2 (io), 14 ADDR3 (io), 16 ADDR4 (io), 17 ADDR5 (io), 18 ADDR6 (io), 19 ADDR7 (io), 21 ADDR8 (io), 22 ADDR9 (io), 23 ADDR10 (io), 24 ADDR11 (io), 25 ADDR12 (io), 26 ADDR13 (io), 27 ADDR14 (io), 28 ADDR15 (io), 29 ADDR16 (io), 31 ADDR17 (io), 32 ADDR18 (io), 34 AN0/ANW/PQB0 (in), 35 AN1/ANX/PQB1 (in), 36 AN2/ANY/PQB2 (in), 37 AN3/ANZ/PQB3 (in), 38 AN48/PQB4 (in), 39 AN49/PQB5 (in), 40 AN50/PQB6 (in), 41 AN51/PQB7 (in), 42 VRH (in), 43 VRL (in), 44 VSSA (power), 45 VDDA (power), 46 AN52/MA0/PQA0 (io), 47 AN53/MA1/PQA1 (io), 48 AN54/MA2/PQA2 (io), 49 AN55/ETRIG1/PQA3 (io), 50 AN56/ETRIG2/PQA4 (io), 51 AN57/PQA5 (io), 52 AN57/PQA6 (io), 53 AN59/PQA7 (io), 55 XTAL, 56 VDDSYN (power), 57 EXTAL, 60 XFC, 63 CLKOUT (out), 64 ~{IPIPE}/DSO (out), 65 ~{IFETCH}/DSI (out), 66 FREEZE/QUOT (out), 67 ~{BKPT}/DSCLK (in), 68 ~{TSTME}/TSC (in), 69 ~{RESET} (io), 70 ~{HALT} (io), 71 ~{BERR} (in), 72 PF7/~{IRQ}7 (io), 73 PF6/~{IRQ}6 (io), 74 PF5/~{IRQ}5 (io), 75 PF4/~{IRQ}4 (io), 76 PF3/~{IRQ}3 (io), 77 PF2/~{IRQ}2 (io), 78 PF1/~{IRQ}1 (io), 79 PF0/MODCLK (io), 82 R/~{W} (out), 83 PE7/SIZ1 (io), 84 PE6/SIZ0 (io), 85 PE5/~{AS} (io), 86 PE4/~{DS} (io), 87 PE3/~{RMC} (io), 88 PE2/~{AVEC} (io), 89 PE1/~{DSACK}1 (io), 90 PE0/~{DSACK}0 (io), 91 ADDR0 (io), 93 DATA15 (io), 94 DATA14 (io), 96 DATA13 (io), 97 DATA12 (io), 98 DATA11 (io), 99 DATA10 (io), 100 DATA9 (io), 102 DATA8 (io), 103 DATA7 (io), 104 DATA6 (io), 105 DATA5 (io), 107 DATA4 (io), 108 DATA3 (io), 110 DATA2 (io), 111 DATA1 (io), 112 DATA0 (io), 113 ~{CSBOOT} (out), 114 ~{BR}/~{CS}0 (io), 115 ~{BG}/~{CS}1 (out), 116 ~{BGACK}/~{CS}2 (io), 117 FC0/~{CS}3 (out), 118 PC1/FC1/~{CS}4 (out), 119 PC2/FC2/~{CS}5 (out), 122 PC3/ADDR19/~{CS}6 (out), 123 PC4/ADDR20/~{CS}7 (out), 124 PC5/ADDR21/~{CS}8 (out), 125 PC6/ADDR22/~{CS}9 (out), 126 ADDR23/~{CS}10/ECLK (out), 127 T2CLK (in), 128 TPUCH15 (io), 129 TPUCH14 (io), 130 TPUCH13 (io), 132 TPUCH12 (io), 133 TPUCH11 (io), 135 VSTBY (power), 136 TPUCH10 (io), 137 TPUCH9 (io), 138 TPUCH8 (io), 139 TPUCH7 (io), 142 TPUCH6 (io), 143 TPUCH5 (io), 144 TPUCH4 (io), 145 TPUCH3 (io), 147 TPUCH2 (io), 148 TPUCH1 (io), 150 TPUCH0 (io), 151 CTD10 (io), 152 CTD9 (io), 153 CPWM8 (out), 154 CPWM7 (out), 155 CPWM6 (out), 156 CPWM5 (out), 157 CTD4 (io), 158 CTD3 (io), 159 CTM2C (in)
part B pins: 1 NC, 12 VDD (power), 15 VSS (power), 20 VSS (power), 30 VDD (power), 33 VSS (power), 54 VSS (power), 58 VSS (power), 59 VDD (power), 61 VDD (power), 62 VSS (power), 80 VDD (power), 81 VSS (power), 92 VDD (power), 95 VSS (power), 101 VSS (power), 106 VDD (power), 109 VSS (power), 120 VDD (power), 121 VSS (power), 131 VDD (power), 134 VSS (power), 140 VDD (power), 141 VSS (power), 146 VDD (power), 149 VSS (power), 160 NC

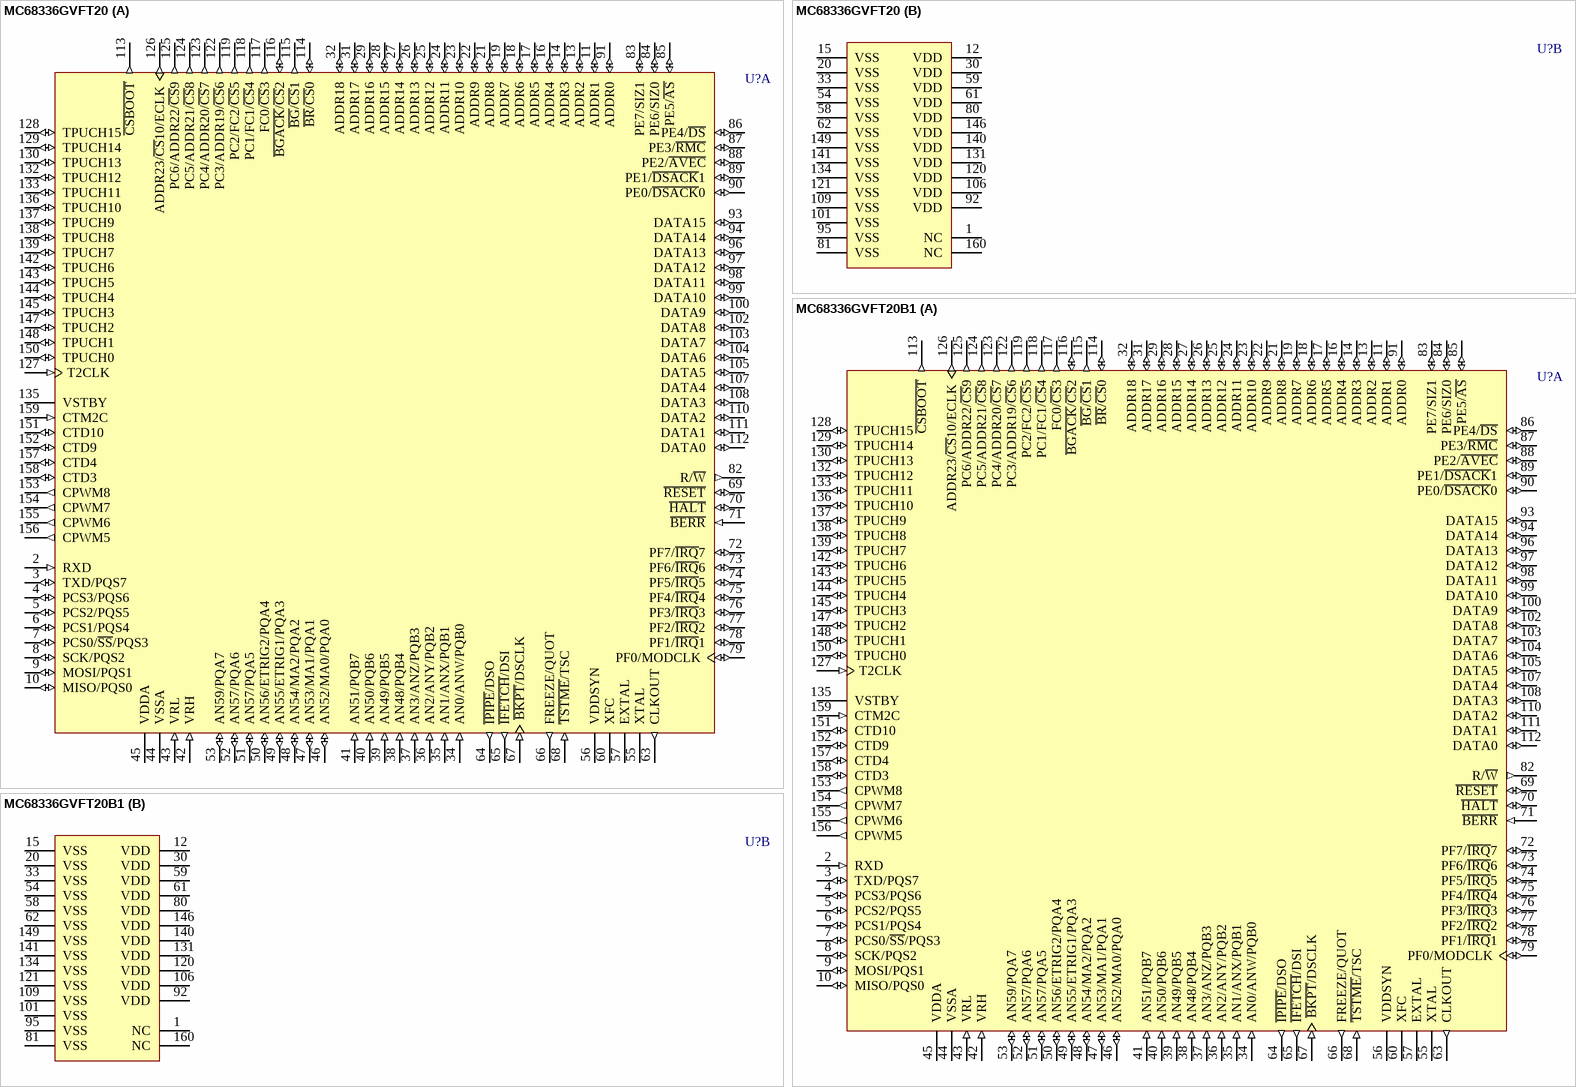
[diagram p147: symbols MC68336GVFT20 to MC68336GVFT20B1]

## MC68336GVFT20
designator U?
32-Bit Microcontroller; Published: 21-Mar-2003; LatestRevisionDate: 13-Apr-2006; LatestRevisionNote: IPC-7351 Footprint Added.; DatasheetVersion: 15-Oct-2000; PackageVersion: 1996; PackageReference: 864A-03; Publisher: Altium Limited; PackageDescription: 160-Pin Plastic Quad Flat Pack 0.65 mm Pitch; Code_IPC: QFP65P3120X3120-160; ComponentLink1Description: Manufacturer Link; ComponentLink1URL: http://www.freescale.com/; ComponentLink2Description: Datasheet; ComponentLink2URL: http://www.freescale.com/files/microcontrollers/doc/data_sheet/MC683336_376UM_ZIP.zip
footprint 864A-03_N (QFP, 160-Leads, Body 28 x 28mm, Pitch 0.65mm, IPC Medium Density)
footprint 864A-03_L (QFP, 160-Leads, Body 28 x 28mm, Pitch 0.65mm, IPC High Density)
footprint 864A-03_M (QFP, 160-Leads, Body 28 x 28mm, Pitch 0.65mm, IPC Low Density)
3D model MC68336-864A-03 (160-Pin Plastic Quad Flat Pack 0.65 mm Pitch)
part A pins: 2 RXD (in), 3 TXD/PQS7 (io), 4 PCS3/PQS6 (io), 5 PCS2/PQS5 (io), 6 PCS1/PQS4 (io), 7 PCS0/~{SS}/PQS3 (io), 8 SCK/PQS2 (io), 9 MOSI/PQS1 (io), 10 MISO/PQS0 (io), 11 ADDR1 (io), 13 ADDR2 (io), 14 ADDR3 (io), 16 ADDR4 (io), 17 ADDR5 (io), 18 ADDR6 (io), 19 ADDR7 (io), 21 ADDR8 (io), 22 ADDR9 (io), 23 ADDR10 (io), 24 ADDR11 (io), 25 ADDR12 (io), 26 ADDR13 (io), 27 ADDR14 (io), 28 ADDR15 (io), 29 ADDR16 (io), 31 ADDR17 (io), 32 ADDR18 (io), 34 AN0/ANW/PQB0 (in), 35 AN1/ANX/PQB1 (in), 36 AN2/ANY/PQB2 (in), 37 AN3/ANZ/PQB3 (in), 38 AN48/PQB4 (in), 39 AN49/PQB5 (in), 40 AN50/PQB6 (in), 41 AN51/PQB7 (in), 42 VRH (in), 43 VRL (in), 44 VSSA (power), 45 VDDA (power), 46 AN52/MA0/PQA0 (io), 47 AN53/MA1/PQA1 (io), 48 AN54/MA2/PQA2 (io), 49 AN55/ETRIG1/PQA3 (io), 50 AN56/ETRIG2/PQA4 (io), 51 AN57/PQA5 (io), 52 AN57/PQA6 (io), 53 AN59/PQA7 (io), 55 XTAL, 56 VDDSYN (power), 57 EXTAL, 60 XFC, 63 CLKOUT (out), 64 ~{IPIPE}/DSO (out), 65 ~{IFETCH}/DSI (out), 66 FREEZE/QUOT (out), 67 ~{BKPT}/DSCLK (in), 68 ~{TSTME}/TSC (in), 69 ~{RESET} (io), 70 ~{HALT} (io), 71 ~{BERR} (in), 72 PF7/~{IRQ}7 (io), 73 PF6/~{IRQ}6 (io), 74 PF5/~{IRQ}5 (io), 75 PF4/~{IRQ}4 (io), 76 PF3/~{IRQ}3 (io), 77 PF2/~{IRQ}2 (io), 78 PF1/~{IRQ}1 (io), 79 PF0/MODCLK (io), 82 R/~{W} (out), 83 PE7/SIZ1 (io), 84 PE6/SIZ0 (io), 85 PE5/~{AS} (io), 86 PE4/~{DS} (io), 87 PE3/~{RMC} (io), 88 PE2/~{AVEC} (io), 89 PE1/~{DSACK}1 (io), 90 PE0/~{DSACK}0 (io), 91 ADDR0 (io), 93 DATA15 (io), 94 DATA14 (io), 96 DATA13 (io), 97 DATA12 (io), 98 DATA11 (io), 99 DATA10 (io), 100 DATA9 (io), 102 DATA8 (io), 103 DATA7 (io), 104 DATA6 (io), 105 DATA5 (io), 107 DATA4 (io), 108 DATA3 (io), 110 DATA2 (io), 111 DATA1 (io), 112 DATA0 (io), 113 ~{CSBOOT} (out), 114 ~{BR}/~{CS}0 (io), 115 ~{BG}/~{CS}1 (out), 116 ~{BGACK}/~{CS}2 (io), 117 FC0/~{CS}3 (out), 118 PC1/FC1/~{CS}4 (out), 119 PC2/FC2/~{CS}5 (out), 122 PC3/ADDR19/~{CS}6 (out), 123 PC4/ADDR20/~{CS}7 (out), 124 PC5/ADDR21/~{CS}8 (out), 125 PC6/ADDR22/~{CS}9 (out), 126 ADDR23/~{CS}10/ECLK (out), 127 T2CLK (in), 128 TPUCH15 (io), 129 TPUCH14 (io), 130 TPUCH13 (io), 132 TPUCH12 (io), 133 TPUCH11 (io), 135 VSTBY (power), 136 TPUCH10 (io), 137 TPUCH9 (io), 138 TPUCH8 (io), 139 TPUCH7 (io), 142 TPUCH6 (io), 143 TPUCH5 (io), 144 TPUCH4 (io), 145 TPUCH3 (io), 147 TPUCH2 (io), 148 TPUCH1 (io), 150 TPUCH0 (io), 151 CTD10 (io), 152 CTD9 (io), 153 CPWM8 (out), 154 CPWM7 (out), 155 CPWM6 (out), 156 CPWM5 (out), 157 CTD4 (io), 158 CTD3 (io), 159 CTM2C (in)
part B pins: 1 NC, 12 VDD (power), 15 VSS (power), 20 VSS (power), 30 VDD (power), 33 VSS (power), 54 VSS (power), 58 VSS (power), 59 VDD (power), 61 VDD (power), 62 VSS (power), 80 VDD (power), 81 VSS (power), 92 VDD (power), 95 VSS (power), 101 VSS (power), 106 VDD (power), 109 VSS (power), 120 VDD (power), 121 VSS (power), 131 VDD (power), 134 VSS (power), 140 VDD (power), 141 VSS (power), 146 VDD (power), 149 VSS (power), 160 NC

## MC68336GVFT20B1
designator U?
32-Bit Microcontroller; Published: 21-Mar-2003; LatestRevisionDate: 13-Apr-2006; LatestRevisionNote: IPC-7351 Footprint Added.; DatasheetVersion: 15-Oct-2000; PackageVersion: 1996; PackageReference: 864A-03; Publisher: Altium Limited; PackageDescription: 160-Pin Plastic Quad Flat Pack 0.65 mm Pitch; Code_IPC: QFP65P3120X3120-160; ComponentLink1Description: Manufacturer Link; ComponentLink1URL: http://www.freescale.com/; ComponentLink2Description: Datasheet; ComponentLink2URL: http://www.freescale.com/files/microcontrollers/doc/data_sheet/MC683336_376UM_ZIP.zip
footprint 864A-03_N (QFP, 160-Leads, Body 28 x 28mm, Pitch 0.65mm, IPC Medium Density)
footprint 864A-03_L (QFP, 160-Leads, Body 28 x 28mm, Pitch 0.65mm, IPC High Density)
footprint 864A-03_M (QFP, 160-Leads, Body 28 x 28mm, Pitch 0.65mm, IPC Low Density)
3D model MC68336-864A-03 (160-Pin Plastic Quad Flat Pack 0.65 mm Pitch)
part A pins: 2 RXD (in), 3 TXD/PQS7 (io), 4 PCS3/PQS6 (io), 5 PCS2/PQS5 (io), 6 PCS1/PQS4 (io), 7 PCS0/~{SS}/PQS3 (io), 8 SCK/PQS2 (io), 9 MOSI/PQS1 (io), 10 MISO/PQS0 (io), 11 ADDR1 (io), 13 ADDR2 (io), 14 ADDR3 (io), 16 ADDR4 (io), 17 ADDR5 (io), 18 ADDR6 (io), 19 ADDR7 (io), 21 ADDR8 (io), 22 ADDR9 (io), 23 ADDR10 (io), 24 ADDR11 (io), 25 ADDR12 (io), 26 ADDR13 (io), 27 ADDR14 (io), 28 ADDR15 (io), 29 ADDR16 (io), 31 ADDR17 (io), 32 ADDR18 (io), 34 AN0/ANW/PQB0 (in), 35 AN1/ANX/PQB1 (in), 36 AN2/ANY/PQB2 (in), 37 AN3/ANZ/PQB3 (in), 38 AN48/PQB4 (in), 39 AN49/PQB5 (in), 40 AN50/PQB6 (in), 41 AN51/PQB7 (in), 42 VRH (in), 43 VRL (in), 44 VSSA (power), 45 VDDA (power), 46 AN52/MA0/PQA0 (io), 47 AN53/MA1/PQA1 (io), 48 AN54/MA2/PQA2 (io), 49 AN55/ETRIG1/PQA3 (io), 50 AN56/ETRIG2/PQA4 (io), 51 AN57/PQA5 (io), 52 AN57/PQA6 (io), 53 AN59/PQA7 (io), 55 XTAL, 56 VDDSYN (power), 57 EXTAL, 60 XFC, 63 CLKOUT (out), 64 ~{IPIPE}/DSO (out), 65 ~{IFETCH}/DSI (out), 66 FREEZE/QUOT (out), 67 ~{BKPT}/DSCLK (in), 68 ~{TSTME}/TSC (in), 69 ~{RESET} (io), 70 ~{HALT} (io), 71 ~{BERR} (in), 72 PF7/~{IRQ}7 (io), 73 PF6/~{IRQ}6 (io), 74 PF5/~{IRQ}5 (io), 75 PF4/~{IRQ}4 (io), 76 PF3/~{IRQ}3 (io), 77 PF2/~{IRQ}2 (io), 78 PF1/~{IRQ}1 (io), 79 PF0/MODCLK (io), 82 R/~{W} (out), 83 PE7/SIZ1 (io), 84 PE6/SIZ0 (io), 85 PE5/~{AS} (io), 86 PE4/~{DS} (io), 87 PE3/~{RMC} (io), 88 PE2/~{AVEC} (io), 89 PE1/~{DSACK}1 (io), 90 PE0/~{DSACK}0 (io), 91 ADDR0 (io), 93 DATA15 (io), 94 DATA14 (io), 96 DATA13 (io), 97 DATA12 (io), 98 DATA11 (io), 99 DATA10 (io), 100 DATA9 (io), 102 DATA8 (io), 103 DATA7 (io), 104 DATA6 (io), 105 DATA5 (io), 107 DATA4 (io), 108 DATA3 (io), 110 DATA2 (io), 111 DATA1 (io), 112 DATA0 (io), 113 ~{CSBOOT} (out), 114 ~{BR}/~{CS}0 (io), 115 ~{BG}/~{CS}1 (out), 116 ~{BGACK}/~{CS}2 (io), 117 FC0/~{CS}3 (out), 118 PC1/FC1/~{CS}4 (out), 119 PC2/FC2/~{CS}5 (out), 122 PC3/ADDR19/~{CS}6 (out), 123 PC4/ADDR20/~{CS}7 (out), 124 PC5/ADDR21/~{CS}8 (out), 125 PC6/ADDR22/~{CS}9 (out), 126 ADDR23/~{CS}10/ECLK (out), 127 T2CLK (in), 128 TPUCH15 (io), 129 TPUCH14 (io), 130 TPUCH13 (io), 132 TPUCH12 (io), 133 TPUCH11 (io), 135 VSTBY (power), 136 TPUCH10 (io), 137 TPUCH9 (io), 138 TPUCH8 (io), 139 TPUCH7 (io), 142 TPUCH6 (io), 143 TPUCH5 (io), 144 TPUCH4 (io), 145 TPUCH3 (io), 147 TPUCH2 (io), 148 TPUCH1 (io), 150 TPUCH0 (io), 151 CTD10 (io), 152 CTD9 (io), 153 CPWM8 (out), 154 CPWM7 (out), 155 CPWM6 (out), 156 CPWM5 (out), 157 CTD4 (io), 158 CTD3 (io), 159 CTM2C (in)
part B pins: 1 NC, 12 VDD (power), 15 VSS (power), 20 VSS (power), 30 VDD (power), 33 VSS (power), 54 VSS (power), 58 VSS (power), 59 VDD (power), 61 VDD (power), 62 VSS (power), 80 VDD (power), 81 VSS (power), 92 VDD (power), 95 VSS (power), 101 VSS (power), 106 VDD (power), 109 VSS (power), 120 VDD (power), 121 VSS (power), 131 VDD (power), 134 VSS (power), 140 VDD (power), 141 VSS (power), 146 VDD (power), 149 VSS (power), 160 NC

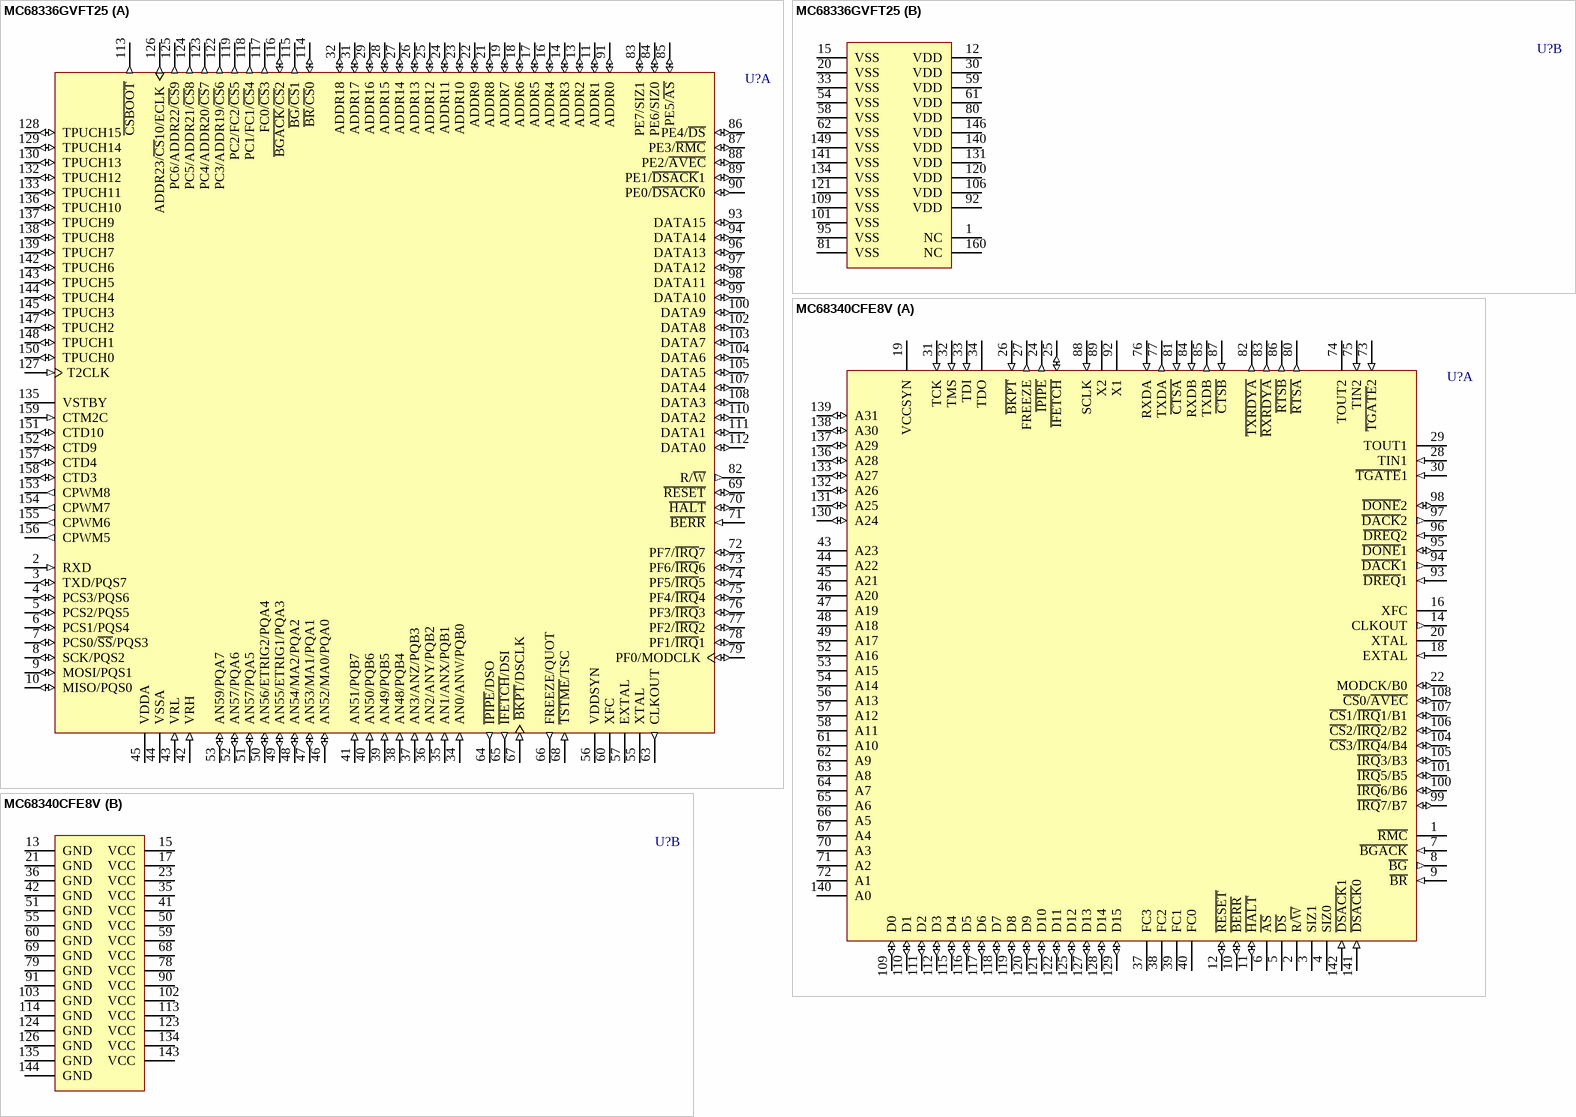
[diagram p148: symbols MC68336GVFT25 to MC68340CFE8V]

## MC68336GVFT25
designator U?
32-Bit Microcontroller; Published: 21-Mar-2003; LatestRevisionDate: 13-Apr-2006; LatestRevisionNote: IPC-7351 Footprint Added.; DatasheetVersion: 15-Oct-2000; PackageVersion: 1996; PackageReference: 864A-03; Publisher: Altium Limited; PackageDescription: 160-Pin Plastic Quad Flat Pack 0.65 mm Pitch; Code_IPC: QFP65P3120X3120-160; ComponentLink1Description: Manufacturer Link; ComponentLink1URL: http://www.freescale.com/; ComponentLink2Description: Datasheet; ComponentLink2URL: http://www.freescale.com/files/microcontrollers/doc/data_sheet/MC683336_376UM_ZIP.zip
footprint 864A-03_N (QFP, 160-Leads, Body 28 x 28mm, Pitch 0.65mm, IPC Medium Density)
footprint 864A-03_L (QFP, 160-Leads, Body 28 x 28mm, Pitch 0.65mm, IPC High Density)
footprint 864A-03_M (QFP, 160-Leads, Body 28 x 28mm, Pitch 0.65mm, IPC Low Density)
3D model MC68336-864A-03 (160-Pin Plastic Quad Flat Pack 0.65 mm Pitch)
part A pins: 2 RXD (in), 3 TXD/PQS7 (io), 4 PCS3/PQS6 (io), 5 PCS2/PQS5 (io), 6 PCS1/PQS4 (io), 7 PCS0/~{SS}/PQS3 (io), 8 SCK/PQS2 (io), 9 MOSI/PQS1 (io), 10 MISO/PQS0 (io), 11 ADDR1 (io), 13 ADDR2 (io), 14 ADDR3 (io), 16 ADDR4 (io), 17 ADDR5 (io), 18 ADDR6 (io), 19 ADDR7 (io), 21 ADDR8 (io), 22 ADDR9 (io), 23 ADDR10 (io), 24 ADDR11 (io), 25 ADDR12 (io), 26 ADDR13 (io), 27 ADDR14 (io), 28 ADDR15 (io), 29 ADDR16 (io), 31 ADDR17 (io), 32 ADDR18 (io), 34 AN0/ANW/PQB0 (in), 35 AN1/ANX/PQB1 (in), 36 AN2/ANY/PQB2 (in), 37 AN3/ANZ/PQB3 (in), 38 AN48/PQB4 (in), 39 AN49/PQB5 (in), 40 AN50/PQB6 (in), 41 AN51/PQB7 (in), 42 VRH (in), 43 VRL (in), 44 VSSA (power), 45 VDDA (power), 46 AN52/MA0/PQA0 (io), 47 AN53/MA1/PQA1 (io), 48 AN54/MA2/PQA2 (io), 49 AN55/ETRIG1/PQA3 (io), 50 AN56/ETRIG2/PQA4 (io), 51 AN57/PQA5 (io), 52 AN57/PQA6 (io), 53 AN59/PQA7 (io), 55 XTAL, 56 VDDSYN (power), 57 EXTAL, 60 XFC, 63 CLKOUT (out), 64 ~{IPIPE}/DSO (out), 65 ~{IFETCH}/DSI (out), 66 FREEZE/QUOT (out), 67 ~{BKPT}/DSCLK (in), 68 ~{TSTME}/TSC (in), 69 ~{RESET} (io), 70 ~{HALT} (io), 71 ~{BERR} (in), 72 PF7/~{IRQ}7 (io), 73 PF6/~{IRQ}6 (io), 74 PF5/~{IRQ}5 (io), 75 PF4/~{IRQ}4 (io), 76 PF3/~{IRQ}3 (io), 77 PF2/~{IRQ}2 (io), 78 PF1/~{IRQ}1 (io), 79 PF0/MODCLK (io), 82 R/~{W} (out), 83 PE7/SIZ1 (io), 84 PE6/SIZ0 (io), 85 PE5/~{AS} (io), 86 PE4/~{DS} (io), 87 PE3/~{RMC} (io), 88 PE2/~{AVEC} (io), 89 PE1/~{DSACK}1 (io), 90 PE0/~{DSACK}0 (io), 91 ADDR0 (io), 93 DATA15 (io), 94 DATA14 (io), 96 DATA13 (io), 97 DATA12 (io), 98 DATA11 (io), 99 DATA10 (io), 100 DATA9 (io), 102 DATA8 (io), 103 DATA7 (io), 104 DATA6 (io), 105 DATA5 (io), 107 DATA4 (io), 108 DATA3 (io), 110 DATA2 (io), 111 DATA1 (io), 112 DATA0 (io), 113 ~{CSBOOT} (out), 114 ~{BR}/~{CS}0 (io), 115 ~{BG}/~{CS}1 (out), 116 ~{BGACK}/~{CS}2 (io), 117 FC0/~{CS}3 (out), 118 PC1/FC1/~{CS}4 (out), 119 PC2/FC2/~{CS}5 (out), 122 PC3/ADDR19/~{CS}6 (out), 123 PC4/ADDR20/~{CS}7 (out), 124 PC5/ADDR21/~{CS}8 (out), 125 PC6/ADDR22/~{CS}9 (out), 126 ADDR23/~{CS}10/ECLK (out), 127 T2CLK (in), 128 TPUCH15 (io), 129 TPUCH14 (io), 130 TPUCH13 (io), 132 TPUCH12 (io), 133 TPUCH11 (io), 135 VSTBY (power), 136 TPUCH10 (io), 137 TPUCH9 (io), 138 TPUCH8 (io), 139 TPUCH7 (io), 142 TPUCH6 (io), 143 TPUCH5 (io), 144 TPUCH4 (io), 145 TPUCH3 (io), 147 TPUCH2 (io), 148 TPUCH1 (io), 150 TPUCH0 (io), 151 CTD10 (io), 152 CTD9 (io), 153 CPWM8 (out), 154 CPWM7 (out), 155 CPWM6 (out), 156 CPWM5 (out), 157 CTD4 (io), 158 CTD3 (io), 159 CTM2C (in)
part B pins: 1 NC, 12 VDD (power), 15 VSS (power), 20 VSS (power), 30 VDD (power), 33 VSS (power), 54 VSS (power), 58 VSS (power), 59 VDD (power), 61 VDD (power), 62 VSS (power), 80 VDD (power), 81 VSS (power), 92 VDD (power), 95 VSS (power), 101 VSS (power), 106 VDD (power), 109 VSS (power), 120 VDD (power), 121 VSS (power), 131 VDD (power), 134 VSS (power), 140 VDD (power), 141 VSS (power), 146 VDD (power), 149 VSS (power), 160 NC

## MC68340CFE8V
designator U?
Integrated Processor with DMA; Published: 21-Mar-2003; LatestRevisionDate: 13-Apr-2006; LatestRevisionNote: IPC-7351 Footprint Added.; DatasheetVersion: 18-Sep-1998; PackageVersion: revA, 1997; PackageReference: 863A-01; Publisher: Altium Limited; PackageDescription: 144-Pin Quad Flat Pack 0.65 mm Pitch; Code_IPC: QFP65P3120X3120-144; ComponentLink1Description: Manufacturer Link; ComponentLink1URL: http://www.freescale.com/
footprint 863A-01_N (QFP, 144-Leads, Body 26.8 x 26.8mm, Pitch 0.65mm, IPC Medium Density)
footprint 863A-01_L (QFP, 144-Leads, Body 26.8 x 26.8mm, Pitch 0.65mm, IPC High Density)
footprint 863A-01_M (QFP, 144-Leads, Body 26.8 x 26.8mm, Pitch 0.65mm, IPC Low Density)
3D model MC68340-863A-01 (144-Pin Quad Flat Pack 0.65 mm Pitch)
part A pins: 1 ~{RMC} (hiz), 2 R/~{W} (hiz), 3 SIZ1 (hiz), 4 SIZ0 (hiz), 5 ~{DS} (hiz), 6 ~{AS} (hiz), 7 ~{BGACK} (in), 8 ~{BG} (out), 9 ~{BR} (in), 10 ~{BERR} (io), 11 ~{HALT} (io), 12 ~{RESET} (io), 14 CLKOUT (out), 16 XFC, 18 EXTAL (in), 19 VCCSYN (power), 20 XTAL, 22 MODCK/B0 (io), 24 ~{IPIPE} (out), 25 ~{IFETCH} (io), 26 ~{BKPT} (in), 27 FREEZE (out), 28 TIN1 (in), 29 TOUT1 (hiz), 30 ~{TGATE}1 (in), 31 TCK (in), 32 TMS (in), 33 TDI (in), 34 TDO (hiz), 37 FC3 (hiz), 38 FC2 (hiz), 39 FC1 (hiz), 40 FC0 (hiz), 43 A23 (hiz), 44 A22 (hiz), 45 A21 (hiz), 46 A20 (hiz), 47 A19 (hiz), 48 A18 (hiz), 49 A17 (hiz), 52 A16 (hiz), 53 A15 (hiz), 54 A14 (hiz), 56 A13 (hiz), 57 A12 (hiz), 58 A11 (hiz), 61 A10 (hiz), 62 A9 (hiz), 63 A8 (hiz), 64 A7 (hiz), 65 A6 (hiz), 66 A5 (hiz), 67 A4 (hiz), 70 A3 (hiz), 71 A2 (hiz), 72 A1 (hiz), 73 ~{TGATE}2 (in), 74 TOUT2 (hiz), 75 TIN2 (in), 76 RXDA (in), 77 TXDA (out), 80 ~{RTSA} (out), 81 ~{CTSA} (in), 82 ~{TXRDYA} (out), 83 ~{RXRDYA} (out), 84 RXDB (in), 85 TXDB (out), 86 ~{RTSB} (out), 87 ~{CTSB} (in), 88 SCLK (in), 89 X2, 92 X1, 93 ~{DREQ}1 (in), 94 ~{DACK}1 (out), 95 ~{DONE}1 (io), 96 ~{DREQ}2 (in), 97 ~{DACK}2 (out), 98 ~{DONE}2 (io), 99 ~{IRQ}7/B7 (io), 100 ~{IRQ}6/B6 (io), 101 ~{IRQ}5/B5 (io), 104 ~{CS}3/~{IRQ}4/B4 (io), 105 ~{IRQ}3/B3 (io), 106 ~{CS}2/~{IRQ}2/B2 (io), 107 ~{CS}1/~{IRQ}1/B1 (io), 108 ~{CS}0/~{AVEC} (io), 109 D0 (io), 110 D1 (io), 111 D2 (io), 112 D3 (io), 115 D4 (io), 116 D5 (io), 117 D6 (io), 118 D7 (io), 119 D8 (io), 120 D9 (io), 121 D10 (io), 122 D11 (io), 125 D12 (io), 127 D13 (io), 128 D14 (io), 129 D15 (io), 130 A24 (io), 131 A25 (io), 132 A26 (io), 133 A27 (io), 136 A28 (io), 137 A29 (io), 138 A30 (io), 139 A31 (io), 140 A0 (hiz), 141 ~{DSACK}0 (in), 142 ~{DSACK}1 (in)
part B pins: 13 GND (power), 15 VCC (power), 17 VCC (power), 21 GND (power), 23 VCC (power), 35 VCC (power), 36 GND (power), 41 VCC (power), 42 GND (power), 50 VCC (power), 51 GND (power), 55 GND (power), 59 VCC (power), 60 GND (power), 68 VCC (power), 69 GND (power), 78 VCC (power), 79 GND (power), 90 VCC (power), 91 GND (power), 102 VCC (power), 103 GND (power), 113 VCC (power), 114 GND (power), 123 VCC (power), 124 GND (power), 126 GND (power), 134 VCC (power), 135 GND (power), 143 VCC (power), 144 GND (power)

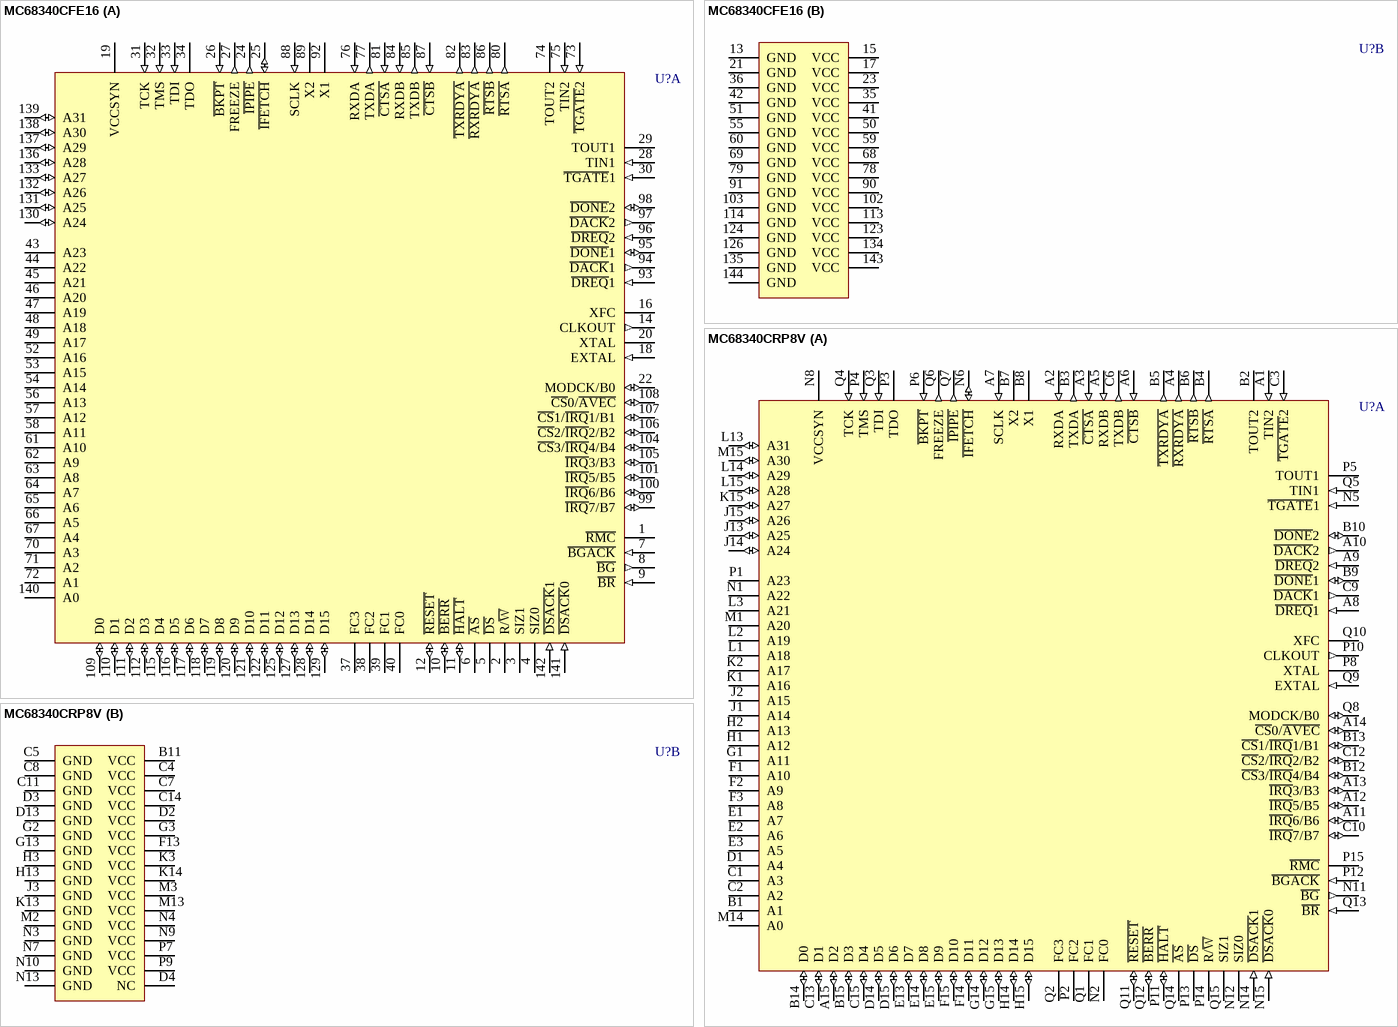
[diagram p149: symbols MC68340CFE16 to MC68340CRP8V]

## MC68340CFE16
designator U?
Integrated Processor with DMA; Published: 21-Mar-2003; LatestRevisionDate: 13-Apr-2006; LatestRevisionNote: IPC-7351 Footprint Added.; DatasheetVersion: 18-Sep-1998; PackageVersion: revA, 1997; PackageReference: 863A-01; Publisher: Altium Limited; PackageDescription: 144-Pin Quad Flat Pack 0.65 mm Pitch; Code_IPC: QFP65P3120X3120-144; ComponentLink1Description: Manufacturer Link; ComponentLink1URL: http://www.freescale.com/
footprint 863A-01_N (QFP, 144-Leads, Body 26.8 x 26.8mm, Pitch 0.65mm, IPC Medium Density)
footprint 863A-01_L (QFP, 144-Leads, Body 26.8 x 26.8mm, Pitch 0.65mm, IPC High Density)
footprint 863A-01_M (QFP, 144-Leads, Body 26.8 x 26.8mm, Pitch 0.65mm, IPC Low Density)
3D model MC68340-863A-01 (144-Pin Quad Flat Pack 0.65 mm Pitch)
part A pins: 1 ~{RMC} (hiz), 2 R/~{W} (hiz), 3 SIZ1 (hiz), 4 SIZ0 (hiz), 5 ~{DS} (hiz), 6 ~{AS} (hiz), 7 ~{BGACK} (in), 8 ~{BG} (out), 9 ~{BR} (in), 10 ~{BERR} (io), 11 ~{HALT} (io), 12 ~{RESET} (io), 14 CLKOUT (out), 16 XFC, 18 EXTAL (in), 19 VCCSYN (power), 20 XTAL, 22 MODCK/B0 (io), 24 ~{IPIPE} (out), 25 ~{IFETCH} (io), 26 ~{BKPT} (in), 27 FREEZE (out), 28 TIN1 (in), 29 TOUT1 (hiz), 30 ~{TGATE}1 (in), 31 TCK (in), 32 TMS (in), 33 TDI (in), 34 TDO (hiz), 37 FC3 (hiz), 38 FC2 (hiz), 39 FC1 (hiz), 40 FC0 (hiz), 43 A23 (hiz), 44 A22 (hiz), 45 A21 (hiz), 46 A20 (hiz), 47 A19 (hiz), 48 A18 (hiz), 49 A17 (hiz), 52 A16 (hiz), 53 A15 (hiz), 54 A14 (hiz), 56 A13 (hiz), 57 A12 (hiz), 58 A11 (hiz), 61 A10 (hiz), 62 A9 (hiz), 63 A8 (hiz), 64 A7 (hiz), 65 A6 (hiz), 66 A5 (hiz), 67 A4 (hiz), 70 A3 (hiz), 71 A2 (hiz), 72 A1 (hiz), 73 ~{TGATE}2 (in), 74 TOUT2 (hiz), 75 TIN2 (in), 76 RXDA (in), 77 TXDA (out), 80 ~{RTSA} (out), 81 ~{CTSA} (in), 82 ~{TXRDYA} (out), 83 ~{RXRDYA} (out), 84 RXDB (in), 85 TXDB (out), 86 ~{RTSB} (out), 87 ~{CTSB} (in), 88 SCLK (in), 89 X2, 92 X1, 93 ~{DREQ}1 (in), 94 ~{DACK}1 (out), 95 ~{DONE}1 (io), 96 ~{DREQ}2 (in), 97 ~{DACK}2 (out), 98 ~{DONE}2 (io), 99 ~{IRQ}7/B7 (io), 100 ~{IRQ}6/B6 (io), 101 ~{IRQ}5/B5 (io), 104 ~{CS}3/~{IRQ}4/B4 (io), 105 ~{IRQ}3/B3 (io), 106 ~{CS}2/~{IRQ}2/B2 (io), 107 ~{CS}1/~{IRQ}1/B1 (io), 108 ~{CS}0/~{AVEC} (io), 109 D0 (io), 110 D1 (io), 111 D2 (io), 112 D3 (io), 115 D4 (io), 116 D5 (io), 117 D6 (io), 118 D7 (io), 119 D8 (io), 120 D9 (io), 121 D10 (io), 122 D11 (io), 125 D12 (io), 127 D13 (io), 128 D14 (io), 129 D15 (io), 130 A24 (io), 131 A25 (io), 132 A26 (io), 133 A27 (io), 136 A28 (io), 137 A29 (io), 138 A30 (io), 139 A31 (io), 140 A0 (hiz), 141 ~{DSACK}0 (in), 142 ~{DSACK}1 (in)
part B pins: 13 GND (power), 15 VCC (power), 17 VCC (power), 21 GND (power), 23 VCC (power), 35 VCC (power), 36 GND (power), 41 VCC (power), 42 GND (power), 50 VCC (power), 51 GND (power), 55 GND (power), 59 VCC (power), 60 GND (power), 68 VCC (power), 69 GND (power), 78 VCC (power), 79 GND (power), 90 VCC (power), 91 GND (power), 102 VCC (power), 103 GND (power), 113 VCC (power), 114 GND (power), 123 VCC (power), 124 GND (power), 126 GND (power), 134 VCC (power), 135 GND (power), 143 VCC (power), 144 GND (power)

## MC68340CRP8V
designator U?
Integrated Processor with DMA; Note: Footprint departs from the JEDEC JC-11 standard. The letter 'q' is used to mark one of the rows.; Published: 21-Mar-2003; LatestRevisionDate: 06-Jun-2005; LatestRevisionNote: Stylized 3D Model Added.; DatasheetVersion: 18-Sep-1998; PackageVersion: Nov-1995; PackageReference: 768E-01; Publisher: Altium Limited; PackageDescription: 145-Pin Pin Grid Array 2.54 mm Pitch; ComponentLink1Description: Manufacturer Link; ComponentLink1URL: http://www.freescale.com/
footprint 768E-01 (PGA, 145-Leads, Body 39.6x39.6mm, Pitch 2.54mm)
3D model MC68340-768E-01 (145-Pin Pin Grid Array 2.54 mm Pitch)
part A pins: A1 TIN2 (in), A2 RXDA (in), A3 ~{CTSA} (in), A4 ~{RXRDYA} (out), A5 RXDB (in), A6 ~{CTSB} (in), A7 SCLK (in), A8 ~{DREQ}1 (in), A9 ~{DREQ}2 (in), A10 ~{DACK}2 (out), A11 ~{IRQ}6/B6 (io), A12 ~{IRQ}5/B5 (io), A13 ~{IRQ}3/B3 (io), A14 ~{CS}0/~{AVEC} (io), A15 D2 (io), B1 A1 (hiz), B2 TOUT2 (hiz), B3 TXDA (out), B4 ~{RTSA} (out), B5 ~{TXRDYA} (out), B6 ~{RTSB} (out), B7 X2, B8 X1, B9 ~{DONE}1 (io), B10 ~{DONE}2 (io), B12 ~{CS}3/~{IRQ}4/B4 (io), B13 ~{CS}1/~{IRQ}1/B1 (io), B14 D0 (io), B15 D3 (io), C1 A3 (hiz), C2 A2 (hiz), C3 ~{TGATE}2 (in), C6 TXDB (out), C9 ~{DACK}1 (out), C10 ~{IRQ}7/B7 (io), C12 ~{CS}2/~{IRQ}2/B2 (io), C13 D1 (io), C15 D4 (io), D1 A4 (hiz), D14 D5 (io), D15 D6 (io), E1 A7 (hiz), E2 A6 (hiz), E3 A5 (hiz), E13 D7 (io), E14 D8 (io), E15 D9 (io), F1 A10 (hiz), F2 A9 (hiz), F3 A8 (hiz), F14 D11 (io), F15 D10 (io), G1 A11 (hiz), G14 D12 (io), G15 D13 (io), H1 A12 (hiz), H2 A13 (hiz), H14 D14 (io), H15 D15 (io), J1 A14 (hiz), J2 A15 (hiz), J13 A25 (io), J14 A24 (io), J15 A26 (io), K1 A16 (hiz), K2 A17 (hiz), K15 A27 (io), L1 A18 (hiz), L2 A19 (hiz), L3 A21 (hiz), L13 A31 (io), L14 A29 (io), L15 A28 (io), M1 A20 (hiz), M14 A0 (hiz), M15 A30 (io), N1 A22 (hiz), N2 FC0 (hiz), N5 ~{TGATE}1 (in), N6 ~{IFETCH} (io), N8 VCCSYN (power), N11 ~{BG} (out), N12 SIZ0 (hiz), N14 ~{DSACK}1 (in), N15 ~{DSACK}0 (in), P1 A23 (hiz), P2 FC2 (hiz), P3 TDO (hiz), P4 TMS (in), P5 TOUT1 (hiz), P6 ~{BKPT} (in), P8 XTAL, P10 CLKOUT (out), P11 ~{HALT} (io), P12 ~{BGACK} (in), P13 ~{DS} (hiz), P14 R/~{W} (hiz), P15 ~{RMC} (hiz), Q1 FC1 (hiz), Q2 FC3 (hiz), Q3 TDI (in), Q4 TCK (in), Q5 TIN1 (in), Q6 FREEZE (out), Q7 ~{IPIPE} (out), Q8 MODCK/B0 (io), Q9 EXTAL (in), Q10 XFC, Q11 ~{RESET} (io), Q12 ~{BERR} (io), Q13 ~{BR} (in), Q14 ~{AS} (hiz), Q15 SIZ1 (hiz)
part B pins: B11 VCC (power), C4 VCC (power), C5 GND (power), C7 VCC (power), C8 GND (power), C11 GND (power), C14 VCC (power), D2 VCC (power), D3 GND (power), D4 NC, D13 GND (power), F13 VCC (power), G2 GND (power), G3 VCC (power), G13 GND (power), H3 GND (power), H13 GND (power), J3 GND (power), K3 VCC (power), K13 GND (power), K14 VCC (power), M2 GND (power), M3 VCC (power), M13 VCC (power), N3 GND (power), N4 VCC (power), N7 GND (power), N9 VCC (power), N10 GND (power), N13 GND (power), P7 VCC (power), P9 VCC (power)

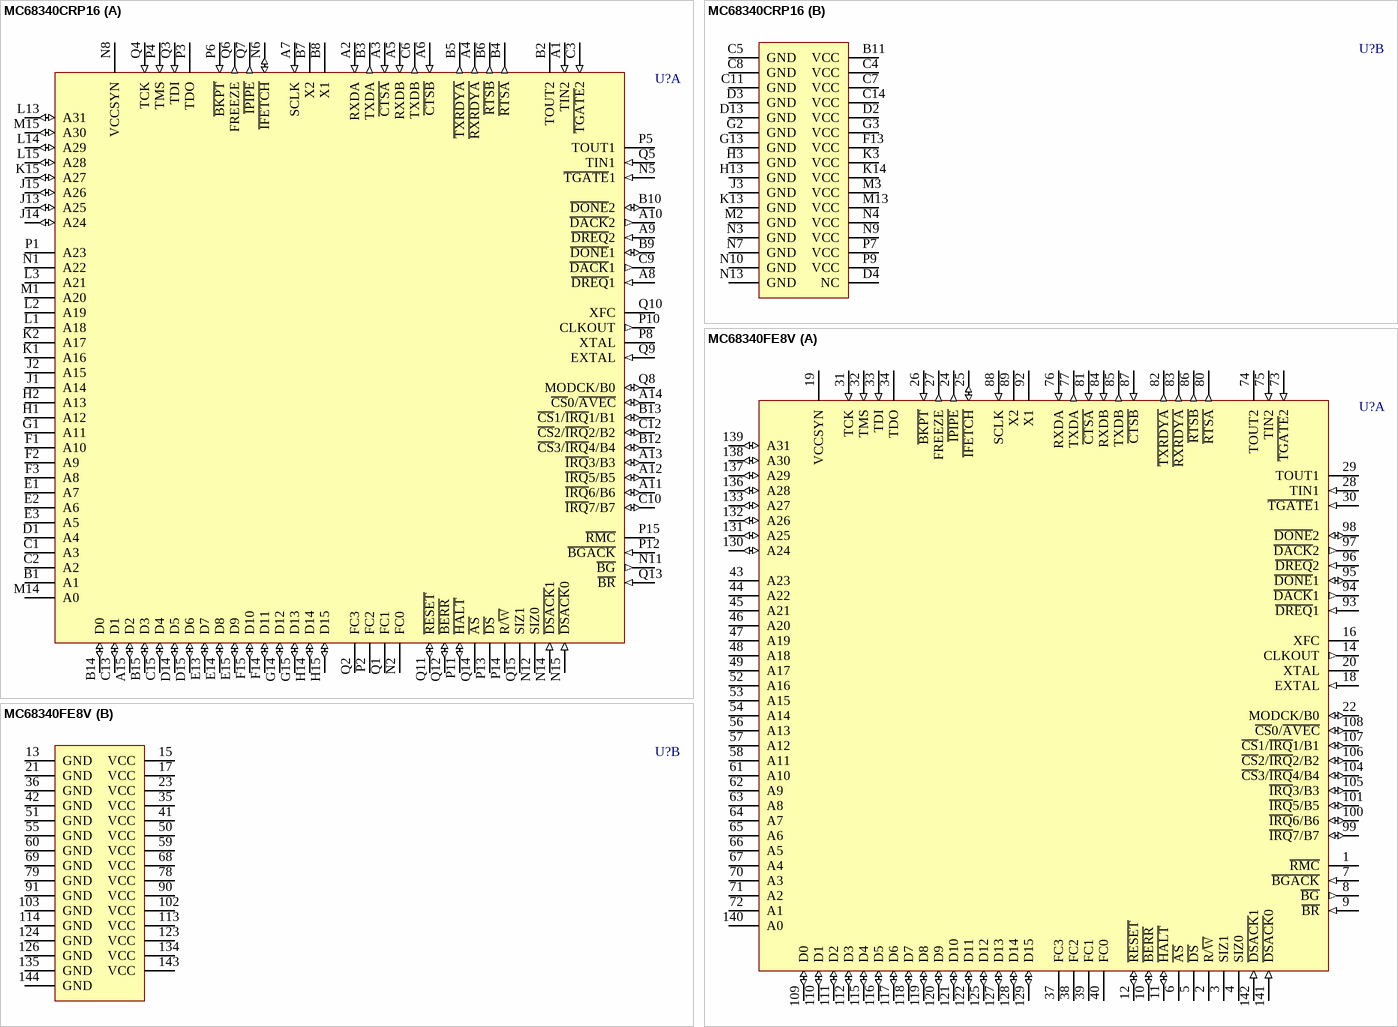
[diagram p150: symbols MC68340CRP16 to MC68340FE8V]

## MC68340CRP16
designator U?
Integrated Processor with DMA; Note: Footprint departs from the JEDEC JC-11 standard. The letter 'q' is used to mark one of the rows.; Published: 21-Mar-2003; LatestRevisionDate: 06-Jun-2005; LatestRevisionNote: Stylized 3D Model Added.; DatasheetVersion: 18-Sep-1998; PackageVersion: Nov-1995; PackageReference: 768E-01; Publisher: Altium Limited; PackageDescription: 145-Pin Pin Grid Array 2.54 mm Pitch; ComponentLink1Description: Manufacturer Link; ComponentLink1URL: http://www.freescale.com/
footprint 768E-01 (PGA, 145-Leads, Body 39.6x39.6mm, Pitch 2.54mm)
3D model MC68340-768E-01 (145-Pin Pin Grid Array 2.54 mm Pitch)
part A pins: A1 TIN2 (in), A2 RXDA (in), A3 ~{CTSA} (in), A4 ~{RXRDYA} (out), A5 RXDB (in), A6 ~{CTSB} (in), A7 SCLK (in), A8 ~{DREQ}1 (in), A9 ~{DREQ}2 (in), A10 ~{DACK}2 (out), A11 ~{IRQ}6/B6 (io), A12 ~{IRQ}5/B5 (io), A13 ~{IRQ}3/B3 (io), A14 ~{CS}0/~{AVEC} (io), A15 D2 (io), B1 A1 (hiz), B2 TOUT2 (hiz), B3 TXDA (out), B4 ~{RTSA} (out), B5 ~{TXRDYA} (out), B6 ~{RTSB} (out), B7 X2, B8 X1, B9 ~{DONE}1 (io), B10 ~{DONE}2 (io), B12 ~{CS}3/~{IRQ}4/B4 (io), B13 ~{CS}1/~{IRQ}1/B1 (io), B14 D0 (io), B15 D3 (io), C1 A3 (hiz), C2 A2 (hiz), C3 ~{TGATE}2 (in), C6 TXDB (out), C9 ~{DACK}1 (out), C10 ~{IRQ}7/B7 (io), C12 ~{CS}2/~{IRQ}2/B2 (io), C13 D1 (io), C15 D4 (io), D1 A4 (hiz), D14 D5 (io), D15 D6 (io), E1 A7 (hiz), E2 A6 (hiz), E3 A5 (hiz), E13 D7 (io), E14 D8 (io), E15 D9 (io), F1 A10 (hiz), F2 A9 (hiz), F3 A8 (hiz), F14 D11 (io), F15 D10 (io), G1 A11 (hiz), G14 D12 (io), G15 D13 (io), H1 A12 (hiz), H2 A13 (hiz), H14 D14 (io), H15 D15 (io), J1 A14 (hiz), J2 A15 (hiz), J13 A25 (io), J14 A24 (io), J15 A26 (io), K1 A16 (hiz), K2 A17 (hiz), K15 A27 (io), L1 A18 (hiz), L2 A19 (hiz), L3 A21 (hiz), L13 A31 (io), L14 A29 (io), L15 A28 (io), M1 A20 (hiz), M14 A0 (hiz), M15 A30 (io), N1 A22 (hiz), N2 FC0 (hiz), N5 ~{TGATE}1 (in), N6 ~{IFETCH} (io), N8 VCCSYN (power), N11 ~{BG} (out), N12 SIZ0 (hiz), N14 ~{DSACK}1 (in), N15 ~{DSACK}0 (in), P1 A23 (hiz), P2 FC2 (hiz), P3 TDO (hiz), P4 TMS (in), P5 TOUT1 (hiz), P6 ~{BKPT} (in), P8 XTAL, P10 CLKOUT (out), P11 ~{HALT} (io), P12 ~{BGACK} (in), P13 ~{DS} (hiz), P14 R/~{W} (hiz), P15 ~{RMC} (hiz), Q1 FC1 (hiz), Q2 FC3 (hiz), Q3 TDI (in), Q4 TCK (in), Q5 TIN1 (in), Q6 FREEZE (out), Q7 ~{IPIPE} (out), Q8 MODCK/B0 (io), Q9 EXTAL (in), Q10 XFC, Q11 ~{RESET} (io), Q12 ~{BERR} (io), Q13 ~{BR} (in), Q14 ~{AS} (hiz), Q15 SIZ1 (hiz)
part B pins: B11 VCC (power), C4 VCC (power), C5 GND (power), C7 VCC (power), C8 GND (power), C11 GND (power), C14 VCC (power), D2 VCC (power), D3 GND (power), D4 NC, D13 GND (power), F13 VCC (power), G2 GND (power), G3 VCC (power), G13 GND (power), H3 GND (power), H13 GND (power), J3 GND (power), K3 VCC (power), K13 GND (power), K14 VCC (power), M2 GND (power), M3 VCC (power), M13 VCC (power), N3 GND (power), N4 VCC (power), N7 GND (power), N9 VCC (power), N10 GND (power), N13 GND (power), P7 VCC (power), P9 VCC (power)

## MC68340FE8V
designator U?
Integrated Processor with DMA; Published: 21-Mar-2003; LatestRevisionDate: 13-Apr-2006; LatestRevisionNote: IPC-7351 Footprint Added.; DatasheetVersion: 18-Sep-1998; PackageVersion: revA, 1997; PackageReference: 863A-01; Publisher: Altium Limited; PackageDescription: 144-Pin Quad Flat Pack 0.65 mm Pitch; Code_IPC: QFP65P3120X3120-144; ComponentLink1Description: Manufacturer Link; ComponentLink1URL: http://www.freescale.com/
footprint 863A-01_N (QFP, 144-Leads, Body 26.8 x 26.8mm, Pitch 0.65mm, IPC Medium Density)
footprint 863A-01_L (QFP, 144-Leads, Body 26.8 x 26.8mm, Pitch 0.65mm, IPC High Density)
footprint 863A-01_M (QFP, 144-Leads, Body 26.8 x 26.8mm, Pitch 0.65mm, IPC Low Density)
3D model MC68340-863A-01 (144-Pin Quad Flat Pack 0.65 mm Pitch)
part A pins: 1 ~{RMC} (hiz), 2 R/~{W} (hiz), 3 SIZ1 (hiz), 4 SIZ0 (hiz), 5 ~{DS} (hiz), 6 ~{AS} (hiz), 7 ~{BGACK} (in), 8 ~{BG} (out), 9 ~{BR} (in), 10 ~{BERR} (io), 11 ~{HALT} (io), 12 ~{RESET} (io), 14 CLKOUT (out), 16 XFC, 18 EXTAL (in), 19 VCCSYN (power), 20 XTAL, 22 MODCK/B0 (io), 24 ~{IPIPE} (out), 25 ~{IFETCH} (io), 26 ~{BKPT} (in), 27 FREEZE (out), 28 TIN1 (in), 29 TOUT1 (hiz), 30 ~{TGATE}1 (in), 31 TCK (in), 32 TMS (in), 33 TDI (in), 34 TDO (hiz), 37 FC3 (hiz), 38 FC2 (hiz), 39 FC1 (hiz), 40 FC0 (hiz), 43 A23 (hiz), 44 A22 (hiz), 45 A21 (hiz), 46 A20 (hiz), 47 A19 (hiz), 48 A18 (hiz), 49 A17 (hiz), 52 A16 (hiz), 53 A15 (hiz), 54 A14 (hiz), 56 A13 (hiz), 57 A12 (hiz), 58 A11 (hiz), 61 A10 (hiz), 62 A9 (hiz), 63 A8 (hiz), 64 A7 (hiz), 65 A6 (hiz), 66 A5 (hiz), 67 A4 (hiz), 70 A3 (hiz), 71 A2 (hiz), 72 A1 (hiz), 73 ~{TGATE}2 (in), 74 TOUT2 (hiz), 75 TIN2 (in), 76 RXDA (in), 77 TXDA (out), 80 ~{RTSA} (out), 81 ~{CTSA} (in), 82 ~{TXRDYA} (out), 83 ~{RXRDYA} (out), 84 RXDB (in), 85 TXDB (out), 86 ~{RTSB} (out), 87 ~{CTSB} (in), 88 SCLK (in), 89 X2, 92 X1, 93 ~{DREQ}1 (in), 94 ~{DACK}1 (out), 95 ~{DONE}1 (io), 96 ~{DREQ}2 (in), 97 ~{DACK}2 (out), 98 ~{DONE}2 (io), 99 ~{IRQ}7/B7 (io), 100 ~{IRQ}6/B6 (io), 101 ~{IRQ}5/B5 (io), 104 ~{CS}3/~{IRQ}4/B4 (io), 105 ~{IRQ}3/B3 (io), 106 ~{CS}2/~{IRQ}2/B2 (io), 107 ~{CS}1/~{IRQ}1/B1 (io), 108 ~{CS}0/~{AVEC} (io), 109 D0 (io), 110 D1 (io), 111 D2 (io), 112 D3 (io), 115 D4 (io), 116 D5 (io), 117 D6 (io), 118 D7 (io), 119 D8 (io), 120 D9 (io), 121 D10 (io), 122 D11 (io), 125 D12 (io), 127 D13 (io), 128 D14 (io), 129 D15 (io), 130 A24 (io), 131 A25 (io), 132 A26 (io), 133 A27 (io), 136 A28 (io), 137 A29 (io), 138 A30 (io), 139 A31 (io), 140 A0 (hiz), 141 ~{DSACK}0 (in), 142 ~{DSACK}1 (in)
part B pins: 13 GND (power), 15 VCC (power), 17 VCC (power), 21 GND (power), 23 VCC (power), 35 VCC (power), 36 GND (power), 41 VCC (power), 42 GND (power), 50 VCC (power), 51 GND (power), 55 GND (power), 59 VCC (power), 60 GND (power), 68 VCC (power), 69 GND (power), 78 VCC (power), 79 GND (power), 90 VCC (power), 91 GND (power), 102 VCC (power), 103 GND (power), 113 VCC (power), 114 GND (power), 123 VCC (power), 124 GND (power), 126 GND (power), 134 VCC (power), 135 GND (power), 143 VCC (power), 144 GND (power)